# Altium schematic symbol library Espressif.SchLib: 32 symbols
Pins are listed as number, name and electrical type; pins without a type are passive.

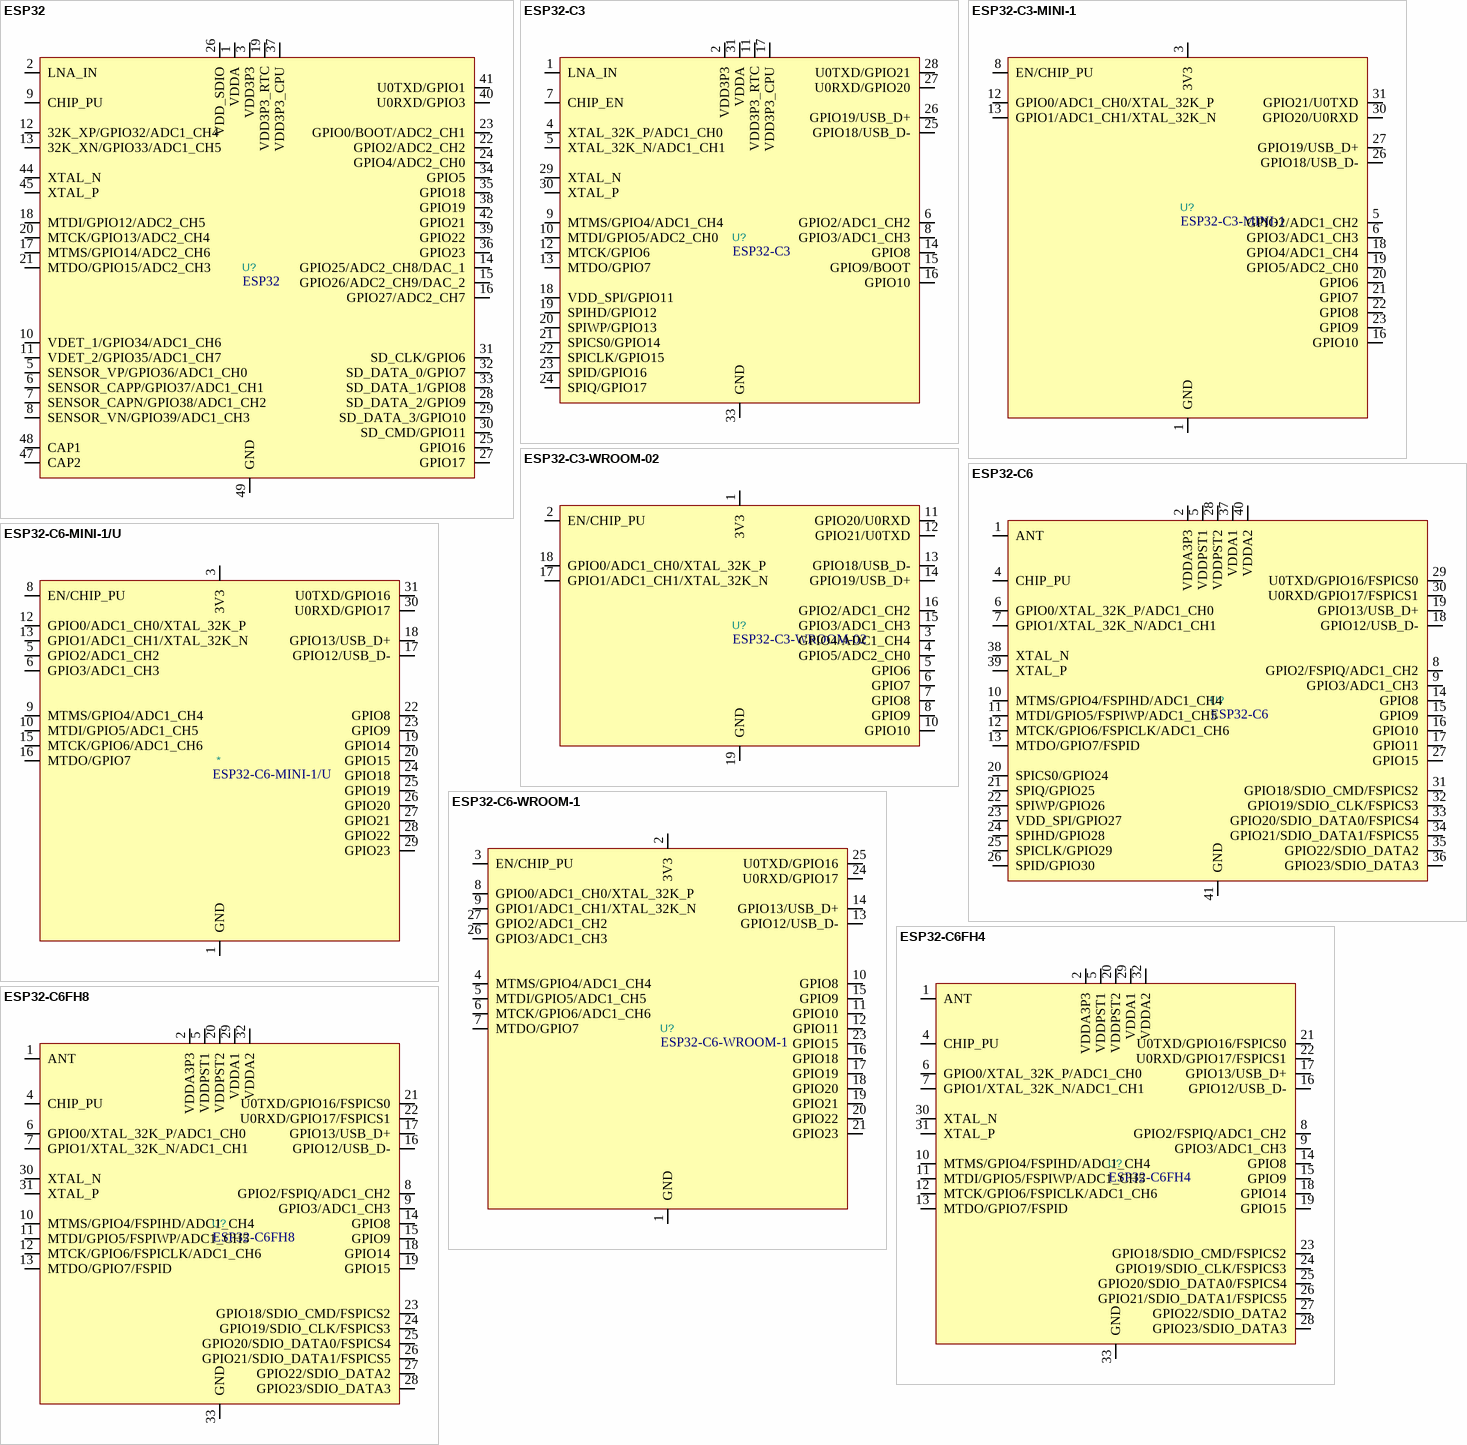
[diagram p0: symbols ESP32 to ESP32-C6FH8]

## ESP32
designator U?
ESP32 is a single 2.4 GHz Wi-Fi-and-Bluetooth combo chip designed with the TSMC ultra-low-power 40 nmtechnology.; ki_keywords: esp32 soc wifi bluetooth ethernet; Footprint: Package_DFN_QFN:QFN-48-1EP_6x6mm_P0.4mm_EP4.3x4.3mm; Datasheet: https://www.espressif.com/sites/default/files/documentation/esp32_datasheet_en.pdf; Description_: ESP32 is a single 2.4 GHz Wi-Fi-and-Bluetooth combo chip designed with the TSMC ultra-low-power 40 nmtechnology.
pins: 1 VDDA, 2 LNA_IN, 3 VDD3P3, 4 VDD3P3 hidden, 5 SENSOR_VP/GPIO36/ADC1_CH0, 6 SENSOR_CAPP/GPIO37/ADC1_CH1, 7 SENSOR_CAPN/GPIO38/ADC1_CH2, 8 SENSOR_VN/GPIO39/ADC1_CH3, 9 CHIP_PU, 10 VDET_1/GPIO34/ADC1_CH6, 11 VDET_2/GPIO35/ADC1_CH7, 12 32K_XP/GPIO32/ADC1_CH4, 13 32K_XN/GPIO33/ADC1_CH5, 14 GPIO25/ADC2_CH8/DAC_1, 15 GPIO26/ADC2_CH9/DAC_2, 16 GPIO27/ADC2_CH7, 17 MTMS/GPIO14/ADC2_CH6, 18 MTDI/GPIO12/ADC2_CH5, 19 VDD3P3_RTC, 20 MTCK/GPIO13/ADC2_CH4, 21 MTDO/GPIO15/ADC2_CH3, 22 GPIO2/ADC2_CH2, 23 GPIO0/BOOT/ADC2_CH1, 24 GPIO4/ADC2_CH0, 25 GPIO16, 26 VDD_SDIO, 27 GPIO17, 28 SD_DATA_2/GPIO9, 29 SD_DATA_3/GPIO10, 30 SD_CMD/GPIO11, 31 SD_CLK/GPIO6, 32 SD_DATA_0/GPIO7, 33 SD_DATA_1/GPIO8, 34 GPIO5, 35 GPIO18, 36 GPIO23, 37 VDD3P3_CPU, 38 GPIO19, 39 GPIO22, 40 U0RXD/GPIO3, 41 U0TXD/GPIO1, 42 GPIO21, 43 VDDA hidden, 44 XTAL_N, 45 XTAL_P, 46 VDDA hidden, 47 CAP2, 48 CAP1, 49 GND

## ESP32-C3
designator U?
ESP32-C3 family is an ultra-low-power MCU-based SoC solution that supports 2.4 GHz Wi-Fi and Bluetooth®Low Energy (Bluetooth LE).; Footprint: Package_DFN_QFN:QFN-32-1EP_5x5mm_P0.5mm_EP3.45x3.45mm; Datasheet: https://www.espressif.com/sites/default/files/documentation/esp32-c3_datasheet_en.pdf; Description_: ESP32-C3 family is an ultra-low-power MCU-based SoC solution that supports 2.4 GHz Wi-Fi and Bluetooth®Low Energy (Bluetooth LE).
footprint ESP32-C3
pins: 1 LNA_IN, 2 VDD3P3, 3 VDD3P3 hidden, 4 XTAL_32K_P/ADC1_CH0, 5 XTAL_32K_N/ADC1_CH1, 6 GPIO2/ADC1_CH2, 7 CHIP_EN, 8 GPIO3/ADC1_CH3, 9 MTMS/GPIO4/ADC1_CH4, 10 MTDI/GPIO5/ADC2_CH0, 11 VDD3P3_RTC, 12 MTCK/GPIO6, 13 MTDO/GPIO7, 14 GPIO8, 15 GPIO9/BOOT, 16 GPIO10, 17 VDD3P3_CPU, 18 VDD_SPI/GPIO11, 19 SPIHD/GPIO12, 20 SPIWP/GPIO13, 21 SPICS0/GPIO14, 22 SPICLK/GPIO15, 23 SPID/GPIO16, 24 SPIQ/GPIO17, 25 GPIO18/USB_D-, 26 GPIO19/USB_D+, 27 U0RXD/GPIO20, 28 U0TXD/GPIO21, 29 XTAL_N, 30 XTAL_P, 31 VDDA, 32 VDDA hidden, 33 GND

## ESP32-C3-MINI-1
designator U?
ESP32-C3-MINI-1 family is an ultra-low-power MCU-based SoC solution that supports 2.4 GHz Wi-Fi and Bluetooth®Low Energy (Bluetooth LE).; Footprint: PCM_Espressif:ESP32-C3-MINI-1; Datasheet: https://www.espressif.com/sites/default/files/documentation/esp32-c3-mini-1_datasheet_en.pdf; Description_: ESP32-C3-MINI-1 family is an ultra-low-power MCU-based SoC solution that supports 2.4 GHz Wi-Fi and Bluetooth®Low Energy (Bluetooth LE).; ki_keywords: esp32-c3
footprint ESP32-C3-MINI-1
footprint ESP32-C3-MINI-1U
footprint ESP32-C3-MINI-1_HandSoldering (ESP32-C3 模块)
pins: 1 GND, 2 GND hidden, 3 3V3, 4 NC hidden, 5 GPIO2/ADC1_CH2, 6 GPIO3/ADC1_CH3, 7 NC hidden, 8 EN/CHIP_PU, 9 NC hidden, 10 NC hidden, 11 GND hidden, 12 GPIO0/ADC1_CH0/XTAL_32K_P, 13 GPIO1/ADC1_CH1/XTAL_32K_N, 14 GND hidden, 15 NC hidden, 16 GPIO10, 17 NC hidden, 18 GPIO4/ADC1_CH4, 19 GPIO5/ADC2_CH0, 20 GPIO6, 21 GPIO7, 22 GPIO8, 23 GPIO9, 24 NC hidden, 25 NC hidden, 26 GPIO18/USB_D-, 27 GPIO19/USB_D+, 28 NC hidden, 29 NC hidden, 30 GPIO20/U0RXD, 31 GPIO21/U0TXD, 32 NC hidden, 33 NC hidden, 34 NC hidden, 35 NC hidden, 36 GND hidden, 37 GND hidden, 38 GND hidden, 39 GND hidden, 40 GND hidden, 41 GND hidden, 42 GND hidden, 43 GND hidden, 44 GND hidden, 45 GND hidden, 46 GND hidden, 47 GND hidden, 48 GND hidden, 49 GND hidden, 50 GND hidden, 51 GND hidden, 52 GND hidden, 53 GND hidden

## ESP32-C3-WROOM-02
designator U?
ESP32-C3-WROOM-02 is a general-purpose Wi-Fi and Bluetooth LE module. This module features a rich set of peripherals and high performance, which makes it an ideal choice for smart home, industrial automation, health care, consumer electronics, etc.; ki_keywords: esp32-c3 module; Footprint: PCM_Espressif:ESP32-C3-WROOM-02; Datasheet: https://www.espressif.com/sites/default/files/documentation/esp32-c3-wroom-02_datasheet_en.pdf; Description_: ESP32-C3-WROOM-02 is a general-purpose Wi-Fi and Bluetooth LE module. This module features a rich set of peripherals and high performance, which makes it an ideal choice for smart home, industrial automation, health care, consumer electronics, etc.
footprint ESP32-C3-WROOM-02
footprint ESP32-C3-WROOM-02U
pins: 1 3V3, 2 EN/CHIP_PU, 3 GPIO4/ADC1_CH4, 4 GPIO5/ADC2_CH0, 5 GPIO6, 6 GPIO7, 7 GPIO8, 8 GPIO9, 9 GND hidden, 10 GPIO10, 11 GPIO20/U0RXD, 12 GPIO21/U0TXD, 13 GPIO18/USB_D-, 14 GPIO19/USB_D+, 15 GPIO3/ADC1_CH3, 16 GPIO2/ADC1_CH2, 17 GPIO1/ADC1_CH1/XTAL_32K_N, 18 GPIO0/ADC1_CH0/XTAL_32K_P, 19 GND

## ESP32-C6
designator U?
ESP32C6,ultra-low-power SoC with RISC-V single-core microprocessor,2.4 GHz Wi-Fi 6 (802.11 ax), Bluetooth 5 (LE), Zigbee and Thread (802.15.4),QFN-40; ki_keywords: esp32c6 riscv wifi bluetooth zigbee thread; ki_fp_filters: QFN*W5mm*P0.4mm*; Footprint: Package_DFN_QFN:QFN-40-1EP_5x5mm_P0.4mm_EP3.6x3.6mm; Datasheet: https://www.espressif.com/sites/default/files/documentation/esp32-c6_datasheet_en.pdf; Description_: ESP32C6,ultra-low-power SoC with RISC-V single-core microprocessor,2.4 GHz Wi-Fi 6 (802.11 ax), Bluetooth 5 (LE), Zigbee and Thread (802.15.4),QFN-40
footprint ESP32-C6
pins: 1 ANT, 2 VDDA3P3, 3 VDDA3P3 hidden, 4 CHIP_PU, 5 VDDPST1, 6 GPIO0/XTAL_32K_P/ADC1_CH0, 7 GPIO1/XTAL_32K_N/ADC1_CH1, 8 GPIO2/FSPIQ/ADC1_CH2, 9 GPIO3/ADC1_CH3, 10 MTMS/GPIO4/FSPIHD/ADC1_CH4, 11 MTDI/GPIO5/FSPIWP/ADC1_CH5, 12 MTCK/GPIO6/FSPICLK/ADC1_CH6, 13 MTDO/GPIO7/FSPID, 14 GPIO8, 15 GPIO9, 16 GPIO10, 17 GPIO11, 18 GPIO12/USB_D-, 19 GPIO13/USB_D+, 20 SPICS0/GPIO24, 21 SPIQ/GPIO25, 22 SPIWP/GPIO26, 23 VDD_SPI/GPIO27, 24 SPIHD/GPIO28, 25 SPICLK/GPIO29, 26 SPID/GPIO30, 27 GPIO15, 28 VDDPST2, 29 U0TXD/GPIO16/FSPICS0, 30 U0RXD/GPIO17/FSPICS1, 31 GPIO18/SDIO_CMD/FSPICS2, 32 GPIO19/SDIO_CLK/FSPICS3, 33 GPIO20/SDIO_DATA0/FSPICS4, 34 GPIO21/SDIO_DATA1/FSPICS5, 35 GPIO22/SDIO_DATA2, 36 GPIO23/SDIO_DATA3, 37 VDDA1, 38 XTAL_N, 39 XTAL_P, 40 VDDA2, 41 GND

## ESP32-C6-MINI-1/U
designator *
ESP32-C6-MINI-1 is a module that supports 2.4 GHz Wi-Fi 6 (802.11 ax), Bluetooth® 5 (LE), Zigbee and Thread (802.15.4); ki_keywords: esp32-c6 esp32-c6-mini-1 esp32-c6-mini-1u; Footprint: PCM_Espressif:ESP32-C6-MINI-1; Datasheet: https://www.espressif.com/sites/default/files/documentation/esp32-c6-mini-1_datasheet_en.pdf; Description_: ESP32-C6-MINI-1 is a module that supports 2.4 GHz Wi-Fi 6 (802.11 ax), Bluetooth® 5 (LE), Zigbee and Thread (802.15.4)
footprint ESP32-C6-MINI-1
footprint ESP32-C6-MINI-1U
pins: 1 GND, 2 GND hidden, 3 3V3, 4 NC hidden, 5 GPIO2/ADC1_CH2, 6 GPIO3/ADC1_CH3, 7 NC hidden, 8 EN/CHIP_PU, 9 MTMS/GPIO4/ADC1_CH4, 10 MTDI/GPIO5/ADC1_CH5, 11 GND hidden, 12 GPIO0/ADC1_CH0/XTAL_32K_P, 13 GPIO1/ADC1_CH1/XTAL_32K_N, 14 GND hidden, 15 MTCK/GPIO6/ADC1_CH6, 16 MTDO/GPIO7, 17 GPIO12/USB_D-, 18 GPIO13/USB_D+, 19 GPIO14, 20 GPIO15, 21 NC hidden, 22 GPIO8, 23 GPIO9, 24 GPIO18, 25 GPIO19, 26 GPIO20, 27 GPIO21, 28 GPIO22, 29 GPIO23, 30 U0RXD/GPIO17, 31 U0TXD/GPIO16, 32 NC hidden, 33 NC hidden, 34 NC hidden, 35 NC hidden, 36 GND hidden, 37 GND hidden, 38 GND hidden, 39 GND hidden, 40 GND hidden, 41 GND hidden, 42 GND hidden, 43 GND hidden, 44 GND hidden, 45 GND hidden, 46 GND hidden, 47 GND hidden, 48 GND hidden, 49 GND hidden, 50 GND hidden, 51 GND hidden, 52 GND hidden, 53 GND hidden

## ESP32-C6-WROOM-1
designator U?
ESP32-C6-WROOM-1/U is a module that supports 2.4 GHz Wi-Fi 6 (802.11 ax), Bluetooth® 5 (LE), Zigbee and Thread (802.15.4); ki_keywords: esp32-c6 esp32-c6-wroom-1 esp32-c6-wroom-1u; ki_fp_filters: ESP32-C6-WROOM-1*; Footprint: PCM_Espressif:ESP32-C6-WROOM-1; Datasheet: https://www.espressif.com/sites/default/files/documentation/esp32-c6-wroom-1_wroom-1u_datasheet_en.pdf; Description_: ESP32-C6-WROOM-1/U is a module that supports 2.4 GHz Wi-Fi 6 (802.11 ax), Bluetooth® 5 (LE), Zigbee and Thread (802.15.4)
footprint ESP32-C6-WROOM-1
footprint ESP32-C6-WROOM-1U
pins: 1 GND, 2 3V3, 3 EN/CHIP_PU, 4 MTMS/GPIO4/ADC1_CH4, 5 MTDI/GPIO5/ADC1_CH5, 6 MTCK/GPIO6/ADC1_CH6, 7 MTDO/GPIO7, 8 GPIO0/ADC1_CH0/XTAL_32K_P, 9 GPIO1/ADC1_CH1/XTAL_32K_N, 10 GPIO8, 11 GPIO10, 12 GPIO11, 13 GPIO12/USB_D-, 14 GPIO13/USB_D+, 15 GPIO9, 16 GPIO18, 17 GPIO19, 18 GPIO20, 19 GPIO21, 20 GPIO22, 21 GPIO23, 22 NC hidden, 23 GPIO15, 24 U0RXD/GPIO17, 25 U0TXD/GPIO16, 26 GPIO3/ADC1_CH3, 27 GPIO2/ADC1_CH2, 28 GND hidden, 29 GND hidden

## ESP32-C6FH4
designator U?
ESP32-C6, ultra-low-power SoC with RISC-V single-core microprocessor,2.4 GHz Wi-Fi 6 (802.11 ax), Bluetooth 5 (LE), Zigbee and Thread (802.15.4),QFN-32; ki_keywords: esp32c6 riscv wifi bluetooth zigbee thread; ki_fp_filters: QFN*W5mm*P0.5mm*; Footprint: Package_DFN_QFN:QFN-32-1EP_5x5mm_P0.5mm_EP3.6x3.6mm; Datasheet: https://www.espressif.com/sites/default/files/documentation/esp32-c6_datasheet_en.pdf; Description_: ESP32-C6, ultra-low-power SoC with RISC-V single-core microprocessor,2.4 GHz Wi-Fi 6 (802.11 ax), Bluetooth 5 (LE), Zigbee and Thread (802.15.4),QFN-32
footprint ESP32-C6F
pins: 1 ANT, 2 VDDA3P3, 3 VDDA3P3 hidden, 4 CHIP_PU, 5 VDDPST1, 6 GPIO0/XTAL_32K_P/ADC1_CH0, 7 GPIO1/XTAL_32K_N/ADC1_CH1, 8 GPIO2/FSPIQ/ADC1_CH2, 9 GPIO3/ADC1_CH3, 10 MTMS/GPIO4/FSPIHD/ADC1_CH4, 11 MTDI/GPIO5/FSPIWP/ADC1_CH5, 12 MTCK/GPIO6/FSPICLK/ADC1_CH6, 13 MTDO/GPIO7/FSPID, 14 GPIO8, 15 GPIO9, 16 GPIO12/USB_D-, 17 GPIO13/USB_D+, 18 GPIO14, 19 GPIO15, 20 VDDPST2, 21 U0TXD/GPIO16/FSPICS0, 22 U0RXD/GPIO17/FSPICS1, 23 GPIO18/SDIO_CMD/FSPICS2, 24 GPIO19/SDIO_CLK/FSPICS3, 25 GPIO20/SDIO_DATA0/FSPICS4, 26 GPIO21/SDIO_DATA1/FSPICS5, 27 GPIO22/SDIO_DATA2, 28 GPIO23/SDIO_DATA3, 29 VDDA1, 30 XTAL_N, 31 XTAL_P, 32 VDDA2, 33 GND

## ESP32-C6FH8
designator U?
ESP32-C6, ultra-low-power SoC with RISC-V single-core microprocessor,2.4 GHz Wi-Fi 6 (802.11 ax), Bluetooth 5 (LE), Zigbee and Thread (802.15.4),QFN-32; ki_keywords: esp32c6 riscv wifi bluetooth zigbee thread; ki_fp_filters: QFN*W5mm*P0.5mm*; Footprint: Package_DFN_QFN:QFN-32-1EP_5x5mm_P0.5mm_EP3.6x3.6mm; Datasheet: https://www.espressif.com/sites/default/files/documentation/esp32-c6_datasheet_en.pdf; Description_: ESP32-C6, ultra-low-power SoC with RISC-V single-core microprocessor,2.4 GHz Wi-Fi 6 (802.11 ax), Bluetooth 5 (LE), Zigbee and Thread (802.15.4),QFN-32
footprint ESP32-C6F
pins: 1 ANT, 2 VDDA3P3, 3 VDDA3P3 hidden, 4 CHIP_PU, 5 VDDPST1, 6 GPIO0/XTAL_32K_P/ADC1_CH0, 7 GPIO1/XTAL_32K_N/ADC1_CH1, 8 GPIO2/FSPIQ/ADC1_CH2, 9 GPIO3/ADC1_CH3, 10 MTMS/GPIO4/FSPIHD/ADC1_CH4, 11 MTDI/GPIO5/FSPIWP/ADC1_CH5, 12 MTCK/GPIO6/FSPICLK/ADC1_CH6, 13 MTDO/GPIO7/FSPID, 14 GPIO8, 15 GPIO9, 16 GPIO12/USB_D-, 17 GPIO13/USB_D+, 18 GPIO14, 19 GPIO15, 20 VDDPST2, 21 U0TXD/GPIO16/FSPICS0, 22 U0RXD/GPIO17/FSPICS1, 23 GPIO18/SDIO_CMD/FSPICS2, 24 GPIO19/SDIO_CLK/FSPICS3, 25 GPIO20/SDIO_DATA0/FSPICS4, 26 GPIO21/SDIO_DATA1/FSPICS5, 27 GPIO22/SDIO_DATA2, 28 GPIO23/SDIO_DATA3, 29 VDDA1, 30 XTAL_N, 31 XTAL_P, 32 VDDA2, 33 GND

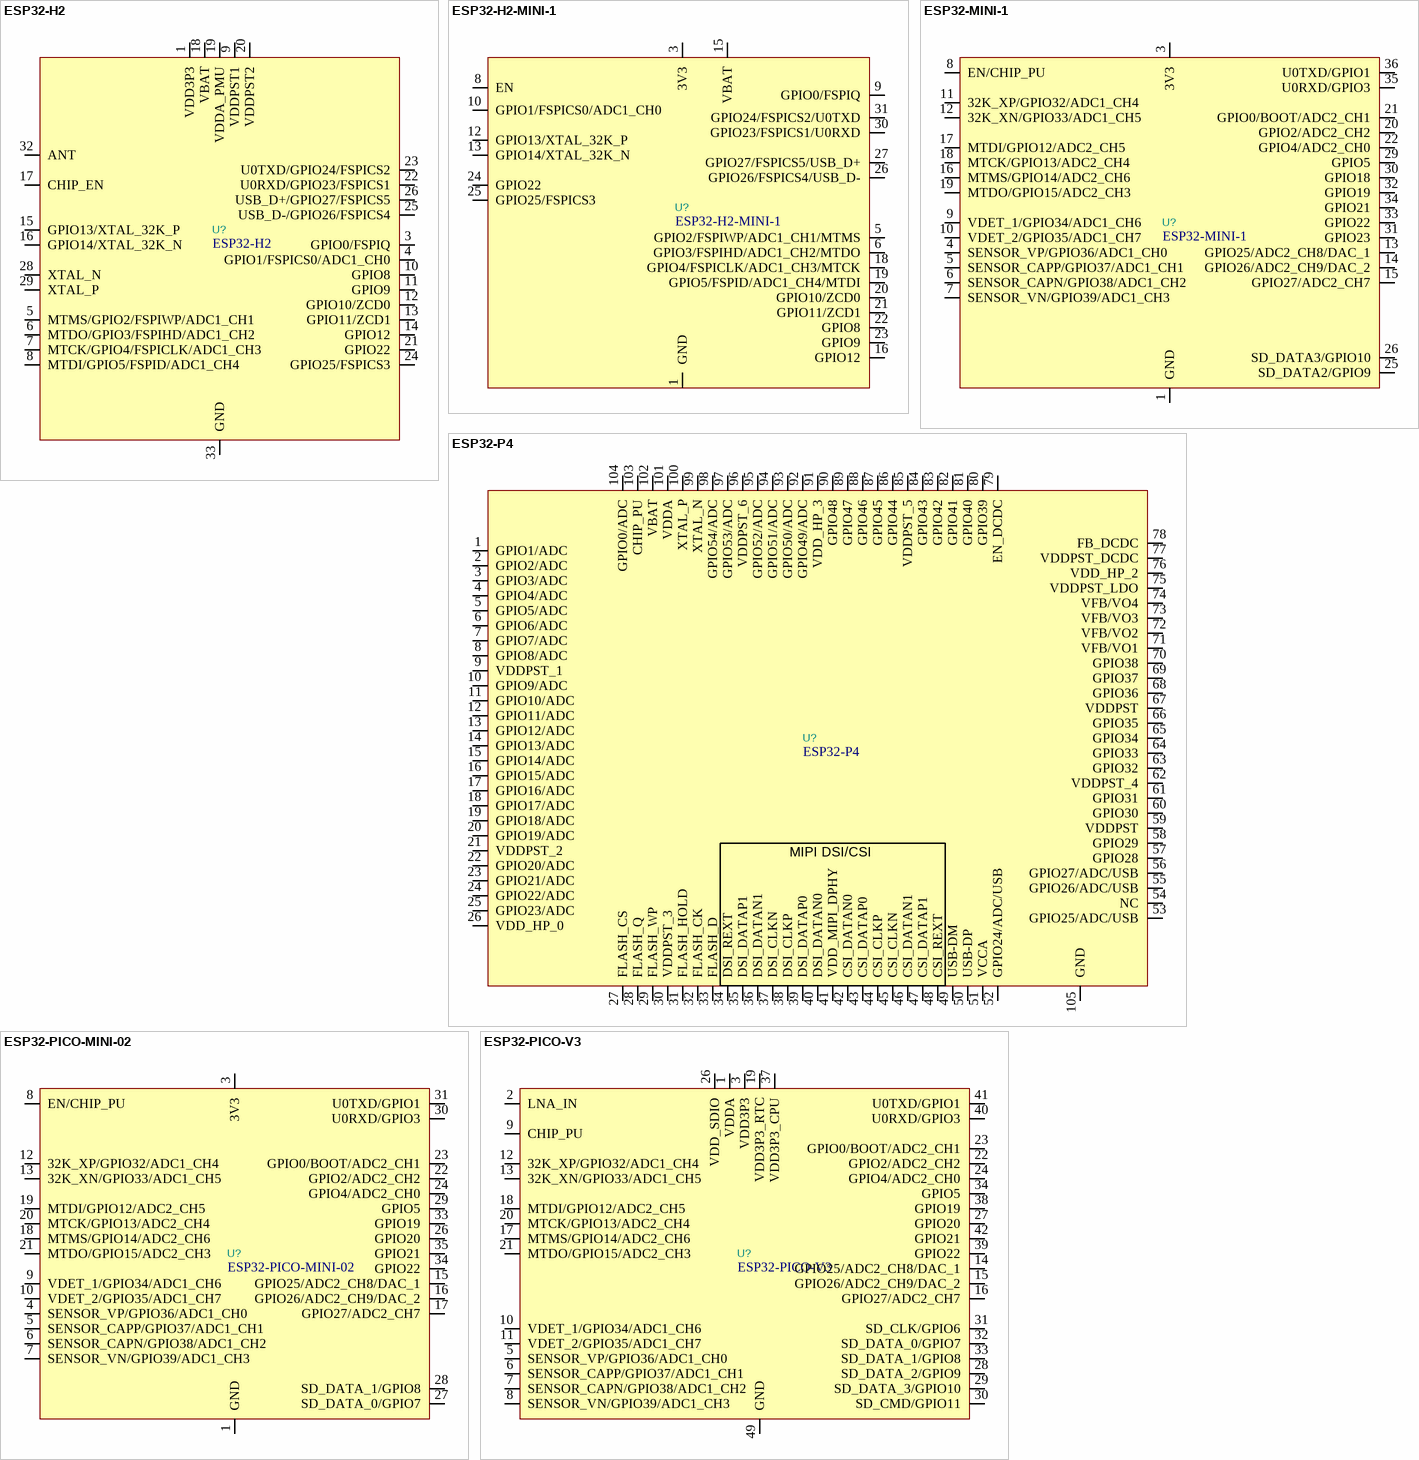
[diagram p1: symbols ESP32-H2 to ESP32-PICO-V3]

## ESP32-H2
designator U?
ESP32-H2, ultra-low-power SoC with RISC-V single-core microprocessor,Bluetooth 5 (LE), Zigbee and Thread (802.15.4),QFN-32; ki_keywords: esp32h2 riscv bluetooth zigbee thread; Footprint: PCM_Espressif:QFN-32-1EP_4x4mm_P0.4mm_EP2.9x2.9mm; Datasheet: https://www.espressif.com/sites/default/files/documentation/esp32-h2_datasheet_en.pdf; Description_: ESP32-H2, ultra-low-power SoC with RISC-V single-core microprocessor,Bluetooth 5 (LE), Zigbee and Thread (802.15.4),QFN-32
footprint ESP32-H2
pins: 1 VDD3P3, 2 VDD3P3 hidden, 3 GPIO0/FSPIQ, 4 GPIO1/FSPICS0/ADC1_CH0, 5 MTMS/GPIO2/FSPIWP/ADC1_CH1, 6 MTDO/GPIO3/FSPIHD/ADC1_CH2, 7 MTCK/GPIO4/FSPICLK/ADC1_CH3, 8 MTDI/GPIO5/FSPID/ADC1_CH4, 9 VDDPST1, 10 GPIO8, 11 GPIO9, 12 GPIO10/ZCD0, 13 GPIO11/ZCD1, 14 GPIO12, 15 GPIO13/XTAL_32K_P, 16 GPIO14/XTAL_32K_N, 17 CHIP_EN, 18 VBAT, 19 VDDA_PMU, 20 VDDPST2, 21 GPIO22, 22 U0RXD/GPIO23/FSPICS1, 23 U0TXD/GPIO24/FSPICS2, 24 GPIO25/FSPICS3, 25 USB_D-/GPIO26/FSPICS4, 26 USB_D+/GPIO27/FSPICS5, 27 VDD3P3 hidden, 28 XTAL_N, 29 XTAL_P, 30 VDD3P3 hidden, 31 VDD3P3 hidden, 32 ANT, 33 GND

## ESP32-H2-MINI-1
designator U?
ESP32-C2-MINI-1 family is an ultra-low-power MCU-based SoC solution that supports Bluetooth®Low Energy (Bluetooth LE), Zigbee 3.0 and Matter; Footprint: PCM_Espressif:ESP32-H2-MINI-1; Datasheet: https://www.espressif.com/sites/default/files/documentation/esp32-h2-mini-1_mini-1u_datasheet_en.pdf; Description_: ESP32-C2-MINI-1 family is an ultra-low-power MCU-based SoC solution that supports Bluetooth®Low Energy (Bluetooth LE), Zigbee 3.0 and Matter; ki_keywords: esp32-h2
footprint ESP32-H2-MINI-1
footprint ESP32-H2-MINI-1U
pins: 1 GND, 2 GND hidden, 3 3V3, 4 NC hidden, 5 GPIO2/FSPIWP/ADC1_CH1/MTMS, 6 GPIO3/FSPIHD/ADC1_CH2/MTDO, 7 NC hidden, 8 EN, 9 GPIO0/FSPIQ, 10 GPIO1/FSPICS0/ADC1_CH0, 11 GND hidden, 12 GPIO13/XTAL_32K_P, 13 GPIO14/XTAL_32K_N, 14 GND hidden, 15 VBAT, 16 GPIO12, 17 NC hidden, 18 GPIO4/FSPICLK/ADC1_CH3/MTCK, 19 GPIO5/FSPID/ADC1_CH4/MTDI, 20 GPIO10/ZCD0, 21 GPIO11/ZCD1, 22 GPIO8, 23 GPIO9, 24 GPIO22, 25 GPIO25/FSPICS3, 26 GPIO26/FSPICS4/USB_D-, 27 GPIO27/FSPICS5/USB_D+, 28 NC hidden, 29 NC hidden, 30 GPIO23/FSPICS1/U0RXD, 31 GPIO24/FSPICS2/U0TXD, 32 NC hidden, 33 NC hidden, 34 NC hidden, 35 NC hidden, 36 GND hidden, 37 GND hidden, 38 GND hidden, 39 GND hidden, 40 GND hidden, 41 GND hidden, 42 GND hidden, 43 GND hidden, 44 GND hidden, 45 GND hidden, 46 GND hidden, 47 GND hidden, 48 GND hidden, 49 GND hidden, 50 GND hidden, 51 GND hidden, 52 GND hidden, 53 GND hidden

## ESP32-MINI-1
designator U?
ESP32-MINI-1/U MCU, SiP, 4MB Flash in ESP32-MINI-format; ki_keywords: esp32 espressif mini; Footprint: PCM_Espressif:ESP32-MINI-1; Datasheet: https://www.espressif.com/sites/default/files/documentation/esp32-mini-1_datasheet_en.pdf; Description_: ESP32-MINI-1/U MCU, SiP, 4MB Flash in ESP32-MINI-format
footprint ESP32-MINI-1
footprint ESP32-MINI-1U
pins: 1 GND, 2 GND hidden, 3 3V3, 4 SENSOR_VP/GPIO36/ADC1_CH0, 5 SENSOR_CAPP/GPIO37/ADC1_CH1, 6 SENSOR_CAPN/GPIO38/ADC1_CH2, 7 SENSOR_VN/GPIO39/ADC1_CH3, 8 EN/CHIP_PU, 9 VDET_1/GPIO34/ADC1_CH6, 10 VDET_2/GPIO35/ADC1_CH7, 11 32K_XP/GPIO32/ADC1_CH4, 12 32K_XN/GPIO33/ADC1_CH5, 13 GPIO25/ADC2_CH8/DAC_1, 14 GPIO26/ADC2_CH9/DAC_2, 15 GPIO27/ADC2_CH7, 16 MTMS/GPIO14/ADC2_CH6, 17 MTDI/GPIO12/ADC2_CH5, 18 MTCK/GPIO13/ADC2_CH4, 19 MTDO/GPIO15/ADC2_CH3, 20 GPIO2/ADC2_CH2, 21 GPIO0/BOOT/ADC2_CH1, 22 GPIO4/ADC2_CH0, 23 NC hidden, 24 NC hidden, 25 SD_DATA2/GPIO9, 26 SD_DATA3/GPIO10, 27 GND hidden, 28 NC hidden, 29 GPIO5, 30 GPIO18, 31 GPIO23, 32 GPIO19, 33 GPIO22, 34 GPIO21, 35 U0RXD/GPIO3, 36 U0TXD/GPIO1, 37 NC hidden, 38 GND hidden, 39 GND hidden, 40 GND hidden, 41 GND hidden, 42 GND hidden, 43 GND hidden, 44 GND hidden, 45 GND hidden, 46 GND hidden, 47 GND hidden, 48 GND hidden, 49 GND hidden, 50 GND hidden, 51 GND hidden, 52 GND hidden, 53 GND hidden, 54 GND hidden, 55 GND hidden

## ESP32-P4
designator U?
High-performance MCU with one RISC-V 32-bit dual-core microprocessor and one single-core microprocessor; Footprint: PCM_Espressif:Espressif:ESP32-P4; Description_: High-performance MCU with one RISC-V 32-bit dual-core microprocessor and one single-core microprocessor
footprint ESP32-P4
pins: 1 GPIO1/ADC, 2 GPIO2/ADC, 3 GPIO3/ADC, 4 GPIO4/ADC, 5 GPIO5/ADC, 6 GPIO6/ADC, 7 GPIO7/ADC, 8 GPIO8/ADC, 9 VDDPST_1, 10 GPIO9/ADC, 11 GPIO10/ADC, 12 GPIO11/ADC, 13 GPIO12/ADC, 14 GPIO13/ADC, 15 GPIO14/ADC, 16 GPIO15/ADC, 17 GPIO16/ADC, 18 GPIO17/ADC, 19 GPIO18/ADC, 20 GPIO19/ADC, 21 VDDPST_2, 22 GPIO20/ADC, 23 GPIO21/ADC, 24 GPIO22/ADC, 25 GPIO23/ADC, 26 VDD_HP_0, 27 FLASH_CS, 28 FLASH_Q, 29 FLASH_WP, 30 VDDPST_3, 31 FLASH_HOLD, 32 FLASH_CK, 33 FLASH_D, 34 DSI_REXT, 35 DSI_DATAP1, 36 DSI_DATAN1, 37 DSI_CLKN, 38 DSI_CLKP, 39 DSI_DATAP0, 40 DSI_DATAN0, 41 VDD_MIPI_DPHY, 42 CSI_DATAN0, 43 CSI_DATAP0, 44 CSI_CLKP, 45 CSI_CLKN, 46 CSI_DATAN1, 47 CSI_DATAP1, 48 CSI_REXT, 49 USB-DM, 50 USB-DP, 51 VCCA, 52 GPIO24/ADC/USB, 53 GPIO25/ADC/USB, 54 NC, 55 GPIO26/ADC/USB, 56 GPIO27/ADC/USB, 57 GPIO28, 58 GPIO29, 59 VDDPST, 60 GPIO30, 61 GPIO31, 62 VDDPST_4, 63 GPIO32, 64 GPIO33, 65 GPIO34, 66 GPIO35, 67 VDDPST, 68 GPIO36, 69 GPIO37, 70 GPIO38, 71 VFB/VO1, 72 VFB/VO2, 73 VFB/VO3, 74 VFB/VO4, 75 VDDPST_LDO, 76 VDD_HP_2, 77 VDDPST_DCDC, 78 FB_DCDC, 79 EN_DCDC, 80 GPIO39, 81 GPIO40, 82 GPIO41, 83 GPIO42, 84 GPIO43, 85 VDDPST_5, 86 GPIO44, 87 GPIO45, 88 GPIO46, 89 GPIO47, 90 GPIO48, 91 VDD_HP_3, 92 GPIO49/ADC, 93 GPIO50/ADC, 94 GPIO51/ADC, 95 GPIO52/ADC, 96 VDDPST_6, 97 GPIO53/ADC, 98 GPIO54/ADC, 99 XTAL_N, 100 XTAL_P, 101 VDDA, 102 VBAT, 103 CHIP_PU, 104 GPIO0/ADC, 105 GND
text: MIPI DSI/CSI

## ESP32-PICO-MINI-02
designator U?
ESP32-PICO-V3-02 MCU, SiP, 8MB Flash, 2 MB PSRAM in ESP32-MINI-format; ki_keywords: esp32 espressif pico mini; Footprint: PCM_Espressif:ESP32-PICO-MINI-02; Datasheet: https://www.espressif.com/sites/default/files/documentation/esp32-pico-mini-02_datasheet_en.pdf; Description_: ESP32-PICO-V3-02 MCU, SiP, 8MB Flash, 2 MB PSRAM in ESP32-MINI-format
footprint ESP32-PICO-MINI-02
footprint ESP32-PICO-MINI-02U (借用了ESP32-C6的模型)
footprint ESP32-PICO-MINI-02_HandSoldering
pins: 1 GND, 2 GND hidden, 3 3V3, 4 SENSOR_VP/GPIO36/ADC1_CH0, 5 SENSOR_CAPP/GPIO37/ADC1_CH1, 6 SENSOR_CAPN/GPIO38/ADC1_CH2, 7 SENSOR_VN/GPIO39/ADC1_CH3, 8 EN/CHIP_PU, 9 VDET_1/GPIO34/ADC1_CH6, 10 VDET_2/GPIO35/ADC1_CH7, 11 GND hidden, 12 32K_XP/GPIO32/ADC1_CH4, 13 32K_XN/GPIO33/ADC1_CH5, 14 GND hidden, 15 GPIO25/ADC2_CH8/DAC_1, 16 GPIO26/ADC2_CH9/DAC_2, 17 GPIO27/ADC2_CH7, 18 MTMS/GPIO14/ADC2_CH6, 19 MTDI/GPIO12/ADC2_CH5, 20 MTCK/GPIO13/ADC2_CH4, 21 MTDO/GPIO15/ADC2_CH3, 22 GPIO2/ADC2_CH2, 23 GPIO0/BOOT/ADC2_CH1, 24 GPIO4/ADC2_CH0, 25 NC hidden, 26 GPIO20, 27 SD_DATA_0/GPIO7, 28 SD_DATA_1/GPIO8, 29 GPIO5, 30 U0RXD/GPIO3, 31 U0TXD/GPIO1, 32 NC hidden, 33 GPIO19, 34 GPIO22, 35 GPIO21, 36 GND hidden, 37 GND hidden, 38 GND hidden, 39 GND hidden, 40 GND hidden, 41 GND hidden, 42 GND hidden, 43 GND hidden, 44 GND hidden, 45 GND hidden, 46 GND hidden, 47 GND hidden, 48 GND hidden, 49 GND hidden, 50 GND hidden, 51 GND hidden, 52 GND hidden, 53 GND hidden

## ESP32-PICO-V3
designator U?
The ESP32-PICO-V3 is a System-in-Package (SiP) device that is based on ESP32 with ECO V3 wafer, providingcomplete Wi-Fi and Bluetooth®functionalities. It integrates a 4 MB SPI flash.; Footprint: Package_DFN_QFN:QFN-48-1EP_7x7mm_P0.5mm_EP5.15x5.15mm; Datasheet: https://www.espressif.com/sites/default/files/documentation/esp32-pico-v3_datasheet_en.pdf; Description_: The ESP32-PICO-V3 is a System-in-Package (SiP) device that is based on ESP32 with ECO V3 wafer, providingcomplete Wi-Fi and Bluetooth®functionalities. It integrates a 4 MB SPI flash.
footprint ESP32-PICO-V3
pins: 1 VDDA, 2 LNA_IN, 3 VDD3P3, 4 VDD3P3 hidden, 5 SENSOR_VP/GPIO36/ADC1_CH0, 6 SENSOR_CAPP/GPIO37/ADC1_CH1, 7 SENSOR_CAPN/GPIO38/ADC1_CH2, 8 SENSOR_VN/GPIO39/ADC1_CH3, 9 CHIP_PU, 10 VDET_1/GPIO34/ADC1_CH6, 11 VDET_2/GPIO35/ADC1_CH7, 12 32K_XP/GPIO32/ADC1_CH4, 13 32K_XN/GPIO33/ADC1_CH5, 14 GPIO25/ADC2_CH8/DAC_1, 15 GPIO26/ADC2_CH9/DAC_2, 16 GPIO27/ADC2_CH7, 17 MTMS/GPIO14/ADC2_CH6, 18 MTDI/GPIO12/ADC2_CH5, 19 VDD3P3_RTC, 20 MTCK/GPIO13/ADC2_CH4, 21 MTDO/GPIO15/ADC2_CH3, 22 GPIO2/ADC2_CH2, 23 GPIO0/BOOT/ADC2_CH1, 24 GPIO4/ADC2_CH0, 26 VDD_SDIO, 27 GPIO20, 28 SD_DATA_2/GPIO9, 29 SD_DATA_3/GPIO10, 30 SD_CMD/GPIO11, 31 SD_CLK/GPIO6, 32 SD_DATA_0/GPIO7, 33 SD_DATA_1/GPIO8, 34 GPIO5, 37 VDD3P3_CPU, 38 GPIO19, 39 GPIO22, 40 U0RXD/GPIO3, 41 U0TXD/GPIO1, 42 GPIO21, 43 VDDA hidden, 46 VDDA hidden, 49 GND

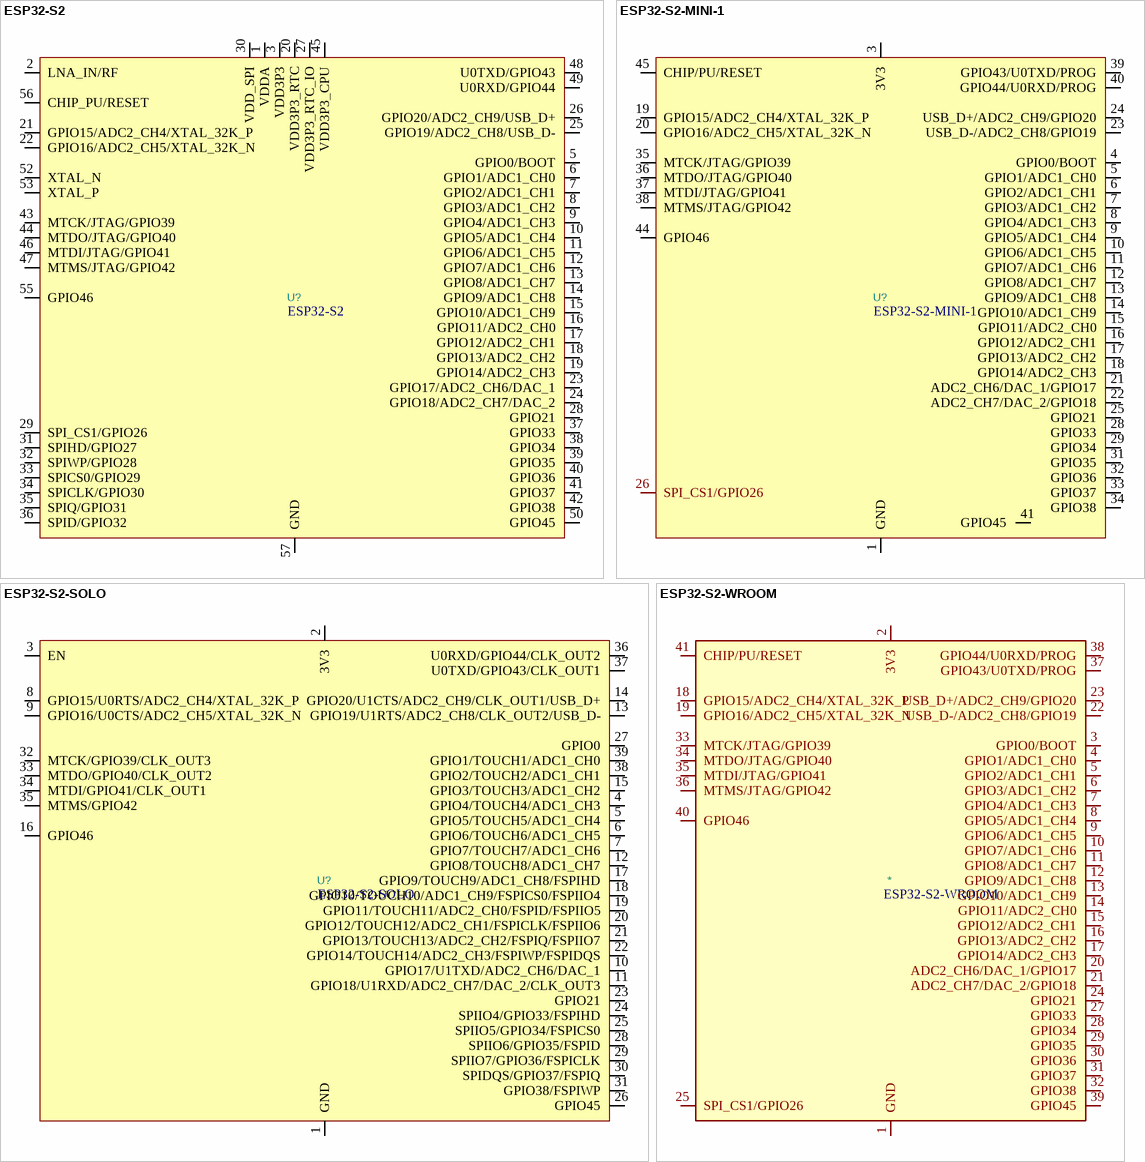
[diagram p2: symbols ESP32-S2 to ESP32-S2-WROOM]

## ESP32-S2
designator U?
ESP32-S2 family is a highly-integrated, low-power, 2.4GHz Wi-Fi System-on-Chip (SoC) solution.; Footprint: Package_DFN_QFN:QFN-56-1EP_7x7mm_P0.4mm_EP5.6x5.6mm; Datasheet: https://www.espressif.com/sites/default/files/documentation/esp32-s2_datasheet_en.pdf; Description_: ESP32-S2 family is a highly-integrated, low-power, 2.4GHz Wi-Fi System-on-Chip (SoC) solution.
footprint ESP32-S2
pins: 1 VDDA, 2 LNA_IN/RF, 3 VDD3P3, 4 VDD3P3 hidden, 5 GPIO0/BOOT, 6 GPIO1/ADC1_CH0, 7 GPIO2/ADC1_CH1, 8 GPIO3/ADC1_CH2, 9 GPIO4/ADC1_CH3, 10 GPIO5/ADC1_CH4, 11 GPIO6/ADC1_CH5, 12 GPIO7/ADC1_CH6, 13 GPIO8/ADC1_CH7, 14 GPIO9/ADC1_CH8, 15 GPIO10/ADC1_CH9, 16 GPIO11/ADC2_CH0, 17 GPIO12/ADC2_CH1, 18 GPIO13/ADC2_CH2, 19 GPIO14/ADC2_CH3, 20 VDD3P3_RTC, 21 GPIO15/ADC2_CH4/XTAL_32K_P, 22 GPIO16/ADC2_CH5/XTAL_32K_N, 23 GPIO17/ADC2_CH6/DAC_1, 24 GPIO18/ADC2_CH7/DAC_2, 25 GPIO19/ADC2_CH8/USB_D-, 26 GPIO20/ADC2_CH9/USB_D+, 27 VDD3P3_RTC_IO, 28 GPIO21, 29 SPI_CS1/GPIO26, 30 VDD_SPI, 31 SPIHD/GPIO27, 32 SPIWP/GPIO28, 33 SPICS0/GPIO29, 34 SPICLK/GPIO30, 35 SPIQ/GPIO31, 36 SPID/GPIO32, 37 GPIO33, 38 GPIO34, 39 GPIO35, 40 GPIO36, 41 GPIO37, 42 GPIO38, 43 MTCK/JTAG/GPIO39, 44 MTDO/JTAG/GPIO40, 45 VDD3P3_CPU, 46 MTDI/JTAG/GPIO41, 47 MTMS/JTAG/GPIO42, 48 U0TXD/GPIO43, 49 U0RXD/GPIO44, 50 GPIO45, 51 VDDA hidden, 52 XTAL_N, 53 XTAL_P, 54 VDDA hidden, 55 GPIO46, 56 CHIP_PU/RESET, 57 GND

## ESP32-S2-MINI-1
designator U?
ESP32-S2-MINI-1 and ESP32-S2-MINI-1U are two powerful, generic Wi-Fi MCU modules that have a rich set of peripherals. They are an ideal choice for a wide variety of application scenarios relating to Internet of Things (IoT), wearable electronics and smart home.; Footprint: PCM_Espressif:ESP32-S2-MINI-1; Datasheet: https://www.espressif.com/sites/default/files/documentation/esp32-s2-mini-1_esp32-s2-mini-1u_datasheet_en.pdf; Description_: ESP32-S2-MINI-1 and ESP32-S2-MINI-1U are two powerful, generic Wi-Fi MCU modules that have a rich set of peripherals. They are an ideal choice for a wide variety of application scenarios relating to Internet of Things (IoT), wearable electronics and smart home.; ki_keywords: ESP32-S2
footprint ESP32-S2-MINI-1U
footprint ESP32-S2-MINI-1
footprint ESP32-S2-MINI-1_HandSoldering
pins: 1 GND, 2 GND hidden, 3 3V3, 4 GPIO0/BOOT, 5 GPIO1/ADC1_CH0, 6 GPIO2/ADC1_CH1, 7 GPIO3/ADC1_CH2, 8 GPIO4/ADC1_CH3, 9 GPIO5/ADC1_CH4, 10 GPIO6/ADC1_CH5, 11 GPIO7/ADC1_CH6, 12 GPIO8/ADC1_CH7, 13 GPIO9/ADC1_CH8, 14 GPIO10/ADC1_CH9, 15 GPIO11/ADC2_CH0, 16 GPIO12/ADC2_CH1, 17 GPIO13/ADC2_CH2, 18 GPIO14/ADC2_CH3, 19 GPIO15/ADC2_CH4/XTAL_32K_P, 20 GPIO16/ADC2_CH5/XTAL_32K_N, 21 ADC2_CH6/DAC_1/GPIO17, 22 ADC2_CH7/DAC_2/GPIO18, 23 USB_D-/ADC2_CH8/GPIO19, 24 USB_D+/ADC2_CH9/GPIO20, 25 GPIO21, 26 SPI_CS1/GPIO26, 27 NC hidden, 28 GPIO33, 29 GPIO34, 30 GND hidden, 31 GPIO35, 32 GPIO36, 33 GPIO37, 34 GPIO38, 35 MTCK/JTAG/GPIO39, 36 MTDO/JTAG/GPIO40, 37 MTDI/JTAG/GPIO41, 38 MTMS/JTAG/GPIO42, 39 GPIO43/U0TXD/PROG, 40 GPIO44/U0RXD/PROG, 41 GPIO45, 42 GND hidden, 43 GND hidden, 44 GPIO46, 45 CHIP/PU/RESET, 46 GND hidden, 47 GND hidden, 48 GND hidden, 49 GND hidden, 50 GND hidden, 51 GND hidden, 52 GND hidden, 53 GND hidden, 54 GND hidden, 55 GND hidden, 56 GND hidden, 57 GND hidden, 58 GND hidden, 59 GND hidden, 60 GND hidden, 61 GND hidden, 62 GND hidden, 63 GND hidden, 64 GND hidden, 65 GND hidden

## ESP32-S2-SOLO
designator U?
ESP32-S2-SOLO and ESP32-S2-SOLO-U are two powerful, generic Wi-Fi MCU modules that have a rich set of peripherals.; ki_keywords: esp32-s2 solo; Footprint: PCM_Espressif:ESP32-S2-SOLO; Datasheet: https://www.espressif.com/sites/default/files/documentation/esp32-s2-solo_esp32-s2-solo-u_datasheet_en.pdf; Description_: ESP32-S2-SOLO and ESP32-S2-SOLO-U are two powerful, generic Wi-Fi MCU modules that have a rich set of peripherals.
footprint ESP32-S2-SOLO
footprint ESP32-S2-SOLO-2U
pins: 1 GND, 2 3V3, 3 EN, 4 GPIO4/TOUCH4/ADC1_CH3, 5 GPIO5/TOUCH5/ADC1_CH4, 6 GPIO6/TOUCH6/ADC1_CH5, 7 GPIO7/TOUCH7/ADC1_CH6, 8 GPIO15/U0RTS/ADC2_CH4/XTAL_32K_P, 9 GPIO16/U0CTS/ADC2_CH5/XTAL_32K_N, 10 GPIO17/U1TXD/ADC2_CH6/DAC_1, 11 GPIO18/U1RXD/ADC2_CH7/DAC_2/CLK_OUT3, 12 GPIO8/TOUCH8/ADC1_CH7, 13 GPIO19/U1RTS/ADC2_CH8/CLK_OUT2/USB_D-, 14 GPIO20/U1CTS/ADC2_CH9/CLK_OUT1/USB_D+, 15 GPIO3/TOUCH3/ADC1_CH2, 16 GPIO46, 17 GPIO9/TOUCH9/ADC1_CH8/FSPIHD, 18 GPIO10/TOUCH10/ADC1_CH9/FSPICS0/FSPIIO4, 19 GPIO11/TOUCH11/ADC2_CH0/FSPID/FSPIIO5, 20 GPIO12/TOUCH12/ADC2_CH1/FSPICLK/FSPIIO6, 21 GPIO13/TOUCH13/ADC2_CH2/FSPIQ/FSPIIO7, 22 GPIO14/TOUCH14/ADC2_CH3/FSPIWP/FSPIDQS, 23 GPIO21, 24 SPIIO4/GPIO33/FSPIHD, 25 SPIIO5/GPIO34/FSPICS0, 26 GPIO45, 27 GPIO0, 28 SPIIO6/GPIO35/FSPID, 29 SPIIO7/GPIO36/FSPICLK, 30 SPIDQS/GPIO37/FSPIQ, 31 GPIO38/FSPIWP, 32 MTCK/GPIO39/CLK_OUT3, 33 MTDO/GPIO40/CLK_OUT2, 34 MTDI/GPIO41/CLK_OUT1, 35 MTMS/GPIO42, 36 U0RXD/GPIO44/CLK_OUT2, 37 U0TXD/GPIO43/CLK_OUT1, 38 GPIO2/TOUCH2/ADC1_CH1, 39 GPIO1/TOUCH1/ADC1_CH0, 40 GND hidden, 41 GND hidden

## ESP32-S2-WROOM
designator *
NRND; Footprint: PCM_Espressif:ESP32-S2-WROOM; Datasheet: https://www.espressif.com/sites/default/files/documentation/esp32-s2-wroom_esp32-s2-wroom-i_datasheet_en.pdf; Description_: NRND
pins: 1 GND, 2 3V3, 3 GPIO0/BOOT, 4 GPIO1/ADC1_CH0, 5 GPIO2/ADC1_CH1, 6 GPIO3/ADC1_CH2, 7 GPIO4/ADC1_CH3, 8 GPIO5/ADC1_CH4, 9 GPIO6/ADC1_CH5, 10 GPIO7/ADC1_CH6, 11 GPIO8/ADC1_CH7, 12 GPIO9/ADC1_CH8, 13 GPIO10/ADC1_CH9, 14 GPIO11/ADC2_CH0, 15 GPIO12/ADC2_CH1, 16 GPIO13/ADC2_CH2, 17 GPIO14/ADC2_CH3, 18 GPIO15/ADC2_CH4/XTAL_32K_P, 19 GPIO16/ADC2_CH5/XTAL_32K_N, 20 ADC2_CH6/DAC_1/GPIO17, 21 ADC2_CH7/DAC_2/GPIO18, 22 USB_D-/ADC2_CH8/GPIO19, 23 USB_D+/ADC2_CH9/GPIO20, 24 GPIO21, 25 SPI_CS1/GPIO26, 26 GND hidden, 27 GPIO33, 28 GPIO34, 29 GPIO35, 30 GPIO36, 31 GPIO37, 32 GPIO38, 33 MTCK/JTAG/GPIO39, 34 MTDO/JTAG/GPIO40, 35 MTDI/JTAG/GPIO41, 36 MTMS/JTAG/GPIO42, 37 GPIO43/U0TXD/PROG, 38 GPIO44/U0RXD/PROG, 39 GPIO45, 40 GPIO46, 41 CHIP/PU/RESET, 42 GND hidden, 43 GND hidden

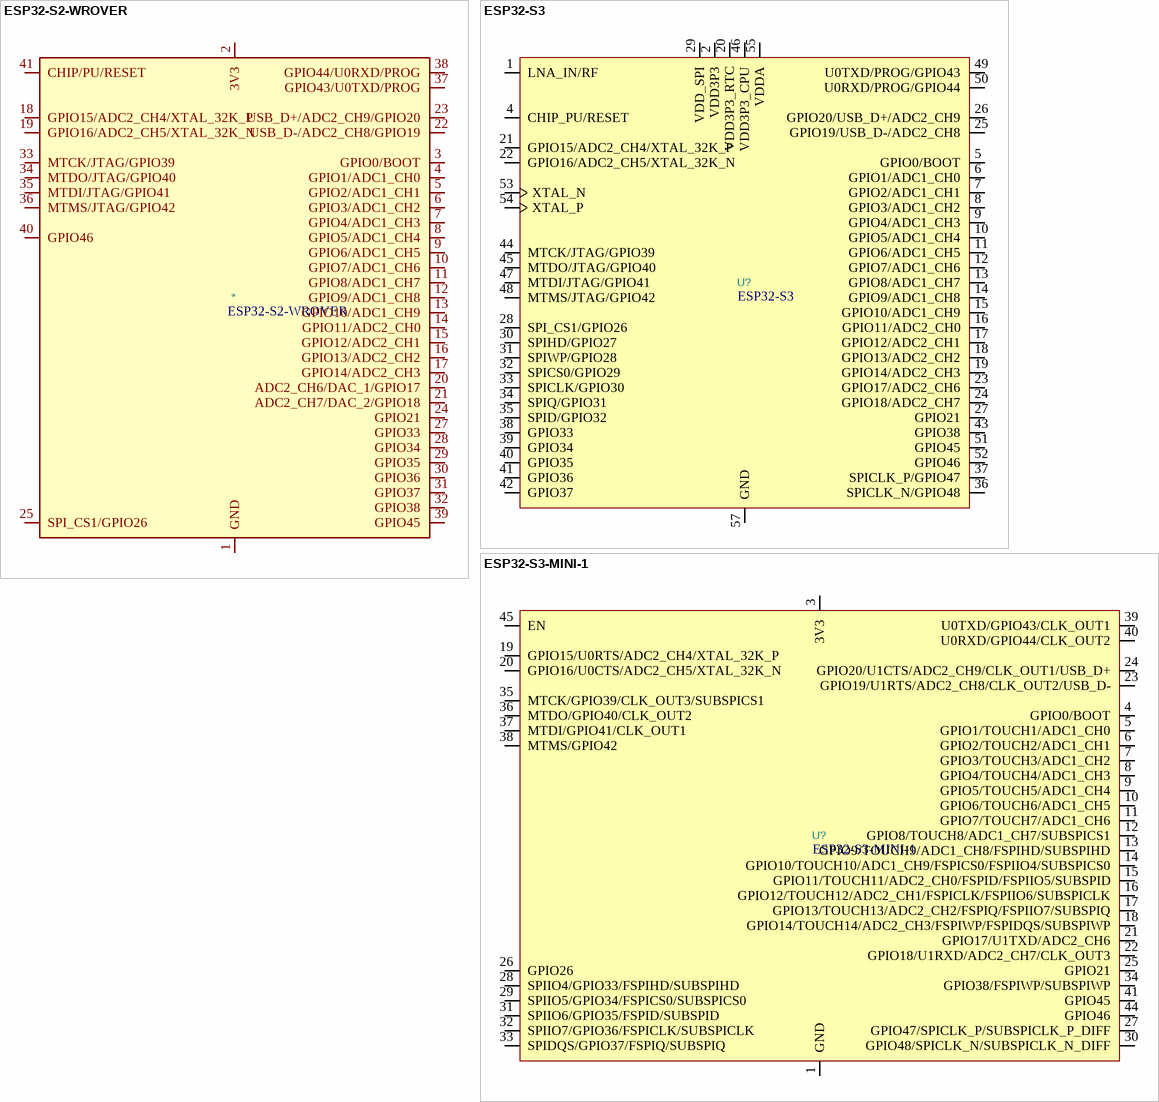
[diagram p3: symbols ESP32-S2-WROVER to ESP32-S3-MINI-1]

## ESP32-S2-WROVER
designator *
NRND; Footprint: PCM_Espressif:ESP32-S2-WROVER; Datasheet: https://www.espressif.com/sites/default/files/documentation/esp32-s2-wroom_esp32-s2-wroom-i_datasheet_en.pdf; Description_: NRND
pins: 1 GND, 2 3V3, 3 GPIO0/BOOT, 4 GPIO1/ADC1_CH0, 5 GPIO2/ADC1_CH1, 6 GPIO3/ADC1_CH2, 7 GPIO4/ADC1_CH3, 8 GPIO5/ADC1_CH4, 9 GPIO6/ADC1_CH5, 10 GPIO7/ADC1_CH6, 11 GPIO8/ADC1_CH7, 12 GPIO9/ADC1_CH8, 13 GPIO10/ADC1_CH9, 14 GPIO11/ADC2_CH0, 15 GPIO12/ADC2_CH1, 16 GPIO13/ADC2_CH2, 17 GPIO14/ADC2_CH3, 18 GPIO15/ADC2_CH4/XTAL_32K_P, 19 GPIO16/ADC2_CH5/XTAL_32K_N, 20 ADC2_CH6/DAC_1/GPIO17, 21 ADC2_CH7/DAC_2/GPIO18, 22 USB_D-/ADC2_CH8/GPIO19, 23 USB_D+/ADC2_CH9/GPIO20, 24 GPIO21, 25 SPI_CS1/GPIO26, 26 GND hidden, 27 GPIO33, 28 GPIO34, 29 GPIO35, 30 GPIO36, 31 GPIO37, 32 GPIO38, 33 MTCK/JTAG/GPIO39, 34 MTDO/JTAG/GPIO40, 35 MTDI/JTAG/GPIO41, 36 MTMS/JTAG/GPIO42, 37 GPIO43/U0TXD/PROG, 38 GPIO44/U0RXD/PROG, 39 GPIO45, 40 GPIO46, 41 CHIP/PU/RESET, 42 GND hidden, 43 GND hidden

## ESP32-S3
designator U?
ESP32-S3 is a low-power MCU-based system-on-chip (SoC) that supports 2.4 GHz Wi-Fi and Bluetooth® Low Energy (Bluetooth LE). It consists of high-performance dual-core microprocessor (Xtensa® 32-bit LX7), a low power coprocessor, a Wi-Fi baseband, a Bluetooth LE baseband, RF module, and peripherals.; Footprint: Package_DFN_QFN:QFN-56-1EP_7x7mm_P0.4mm_EP5.6x5.6mm; Datasheet: https://www.espressif.com/sites/default/files/documentation/esp32-s3_datasheet_en.pdf; Description_: ESP32-S3 is a low-power MCU-based system-on-chip (SoC) that supports 2.4 GHz Wi-Fi and Bluetooth® Low Energy (Bluetooth LE). It consists of high-performance dual-core microprocessor (Xtensa® 32-bit LX7), a low power coprocessor, a Wi-Fi baseband, a Bluetooth LE baseband, RF module, and peripherals.
footprint ESP32-S3
pins: 1 LNA_IN/RF, 2 VDD3P3, 3 VDD3P3 hidden, 4 CHIP_PU/RESET, 5 GPIO0/BOOT, 6 GPIO1/ADC1_CH0, 7 GPIO2/ADC1_CH1, 8 GPIO3/ADC1_CH2, 9 GPIO4/ADC1_CH3, 10 GPIO5/ADC1_CH4, 11 GPIO6/ADC1_CH5, 12 GPIO7/ADC1_CH6, 13 GPIO8/ADC1_CH7, 14 GPIO9/ADC1_CH8, 15 GPIO10/ADC1_CH9, 16 GPIO11/ADC2_CH0, 17 GPIO12/ADC2_CH1, 18 GPIO13/ADC2_CH2, 19 GPIO14/ADC2_CH3, 20 VDD3P3_RTC, 21 GPIO15/ADC2_CH4/XTAL_32K_P, 22 GPIO16/ADC2_CH5/XTAL_32K_N, 23 GPIO17/ADC2_CH6, 24 GPIO18/ADC2_CH7, 25 GPIO19/USB_D-/ADC2_CH8, 26 GPIO20/USB_D+/ADC2_CH9, 27 GPIO21, 28 SPI_CS1/GPIO26, 29 VDD_SPI, 30 SPIHD/GPIO27, 31 SPIWP/GPIO28, 32 SPICS0/GPIO29, 33 SPICLK/GPIO30, 34 SPIQ/GPIO31, 35 SPID/GPIO32, 36 SPICLK_N/GPIO48, 37 SPICLK_P/GPIO47, 38 GPIO33, 39 GPIO34, 40 GPIO35, 41 GPIO36, 42 GPIO37, 43 GPIO38, 44 MTCK/JTAG/GPIO39, 45 MTDO/JTAG/GPIO40, 46 VDD3P3_CPU, 47 MTDI/JTAG/GPIO41, 48 MTMS/JTAG/GPIO42, 49 U0TXD/PROG/GPIO43, 50 U0RXD/PROG/GPIO44, 51 GPIO45, 52 GPIO46, 53 XTAL_N, 54 XTAL_P, 55 VDDA, 56 VDDA hidden, 57 GND

## ESP32-S3-MINI-1
designator U?
Smallsized module supporting 2.4 GHz WiFi (802.11 b/g/n) and Bluetooth ® 5 (LE) Built around ESP32S3 series of SoCs, Xtensa ® dualcore 32bit LX7 microprocessor Flash up to 8 MB, optional 2 MB PSRAM in chip package 39 GPIOs, rich set of peripherals Onboard PCB antenna or external antenna connector; Footprint: PCM_Espressif:ESP32-S3-MINI-1; Datasheet: https://www.espressif.com/sites/default/files/documentation/esp32-s3-mini-1_mini-1u_datasheet_en.pdf; Description_: Smallsized module supporting 2.4 GHz WiFi (802.11 b/g/n) and Bluetooth ® 5 (LE) Built around ESP32S3 series of SoCs, Xtensa ® dualcore 32bit LX7 microprocessor Flash up to 8 MB, optional 2 MB PSRAM in chip package 39 GPIOs, rich set of peripherals Onboard PCB antenna or external antenna connector
footprint ESP32-S3-MINI-1
footprint ESP32-S3-MINI-1U
pins: 1 GND, 2 GND hidden, 3 3V3, 4 GPIO0/BOOT, 5 GPIO1/TOUCH1/ADC1_CH0, 6 GPIO2/TOUCH2/ADC1_CH1, 7 GPIO3/TOUCH3/ADC1_CH2, 8 GPIO4/TOUCH4/ADC1_CH3, 9 GPIO5/TOUCH5/ADC1_CH4, 10 GPIO6/TOUCH6/ADC1_CH5, 11 GPIO7/TOUCH7/ADC1_CH6, 12 GPIO8/TOUCH8/ADC1_CH7/SUBSPICS1, 13 GPIO9/TOUCH9/ADC1_CH8/FSPIHD/SUBSPIHD, 14 GPIO10/TOUCH10/ADC1_CH9/FSPICS0/FSPIIO4/SUBSPICS0, 15 GPIO11/TOUCH11/ADC2_CH0/FSPID/FSPIIO5/SUBSPID, 16 GPIO12/TOUCH12/ADC2_CH1/FSPICLK/FSPIIO6/SUBSPICLK, 17 GPIO13/TOUCH13/ADC2_CH2/FSPIQ/FSPIIO7/SUBSPIQ, 18 GPIO14/TOUCH14/ADC2_CH3/FSPIWP/FSPIDQS/SUBSPIWP, 19 GPIO15/U0RTS/ADC2_CH4/XTAL_32K_P, 20 GPIO16/U0CTS/ADC2_CH5/XTAL_32K_N, 21 GPIO17/U1TXD/ADC2_CH6, 22 GPIO18/U1RXD/ADC2_CH7/CLK_OUT3, 23 GPIO19/U1RTS/ADC2_CH8/CLK_OUT2/USB_D-, 24 GPIO20/U1CTS/ADC2_CH9/CLK_OUT1/USB_D+, 25 GPIO21, 26 GPIO26, 27 GPIO47/SPICLK_P/SUBSPICLK_P_DIFF, 28 SPIIO4/GPIO33/FSPIHD/SUBSPIHD, 29 SPIIO5/GPIO34/FSPICS0/SUBSPICS0, 30 GPIO48/SPICLK_N/SUBSPICLK_N_DIFF, 31 SPIIO6/GPIO35/FSPID/SUBSPID, 32 SPIIO7/GPIO36/FSPICLK/SUBSPICLK, 33 SPIDQS/GPIO37/FSPIQ/SUBSPIQ, 34 GPIO38/FSPIWP/SUBSPIWP, 35 MTCK/GPIO39/CLK_OUT3/SUBSPICS1, 36 MTDO/GPIO40/CLK_OUT2, 37 MTDI/GPIO41/CLK_OUT1, 38 MTMS/GPIO42, 39 U0TXD/GPIO43/CLK_OUT1, 40 U0RXD/GPIO44/CLK_OUT2, 41 GPIO45, 42 GND hidden, 43 GND hidden, 44 GPIO46, 45 EN, 46 GND hidden, 47 GND hidden, 48 GND hidden, 49 GND hidden, 50 GND hidden, 51 GND hidden, 52 GND hidden, 53 GND hidden, 54 GND hidden, 55 GND hidden, 56 GND hidden, 57 GND hidden, 58 GND hidden, 59 GND hidden, 60 GND hidden, 61 GND hidden, 62 GND hidden, 63 GND hidden, 64 GND hidden, 65 GND hidden

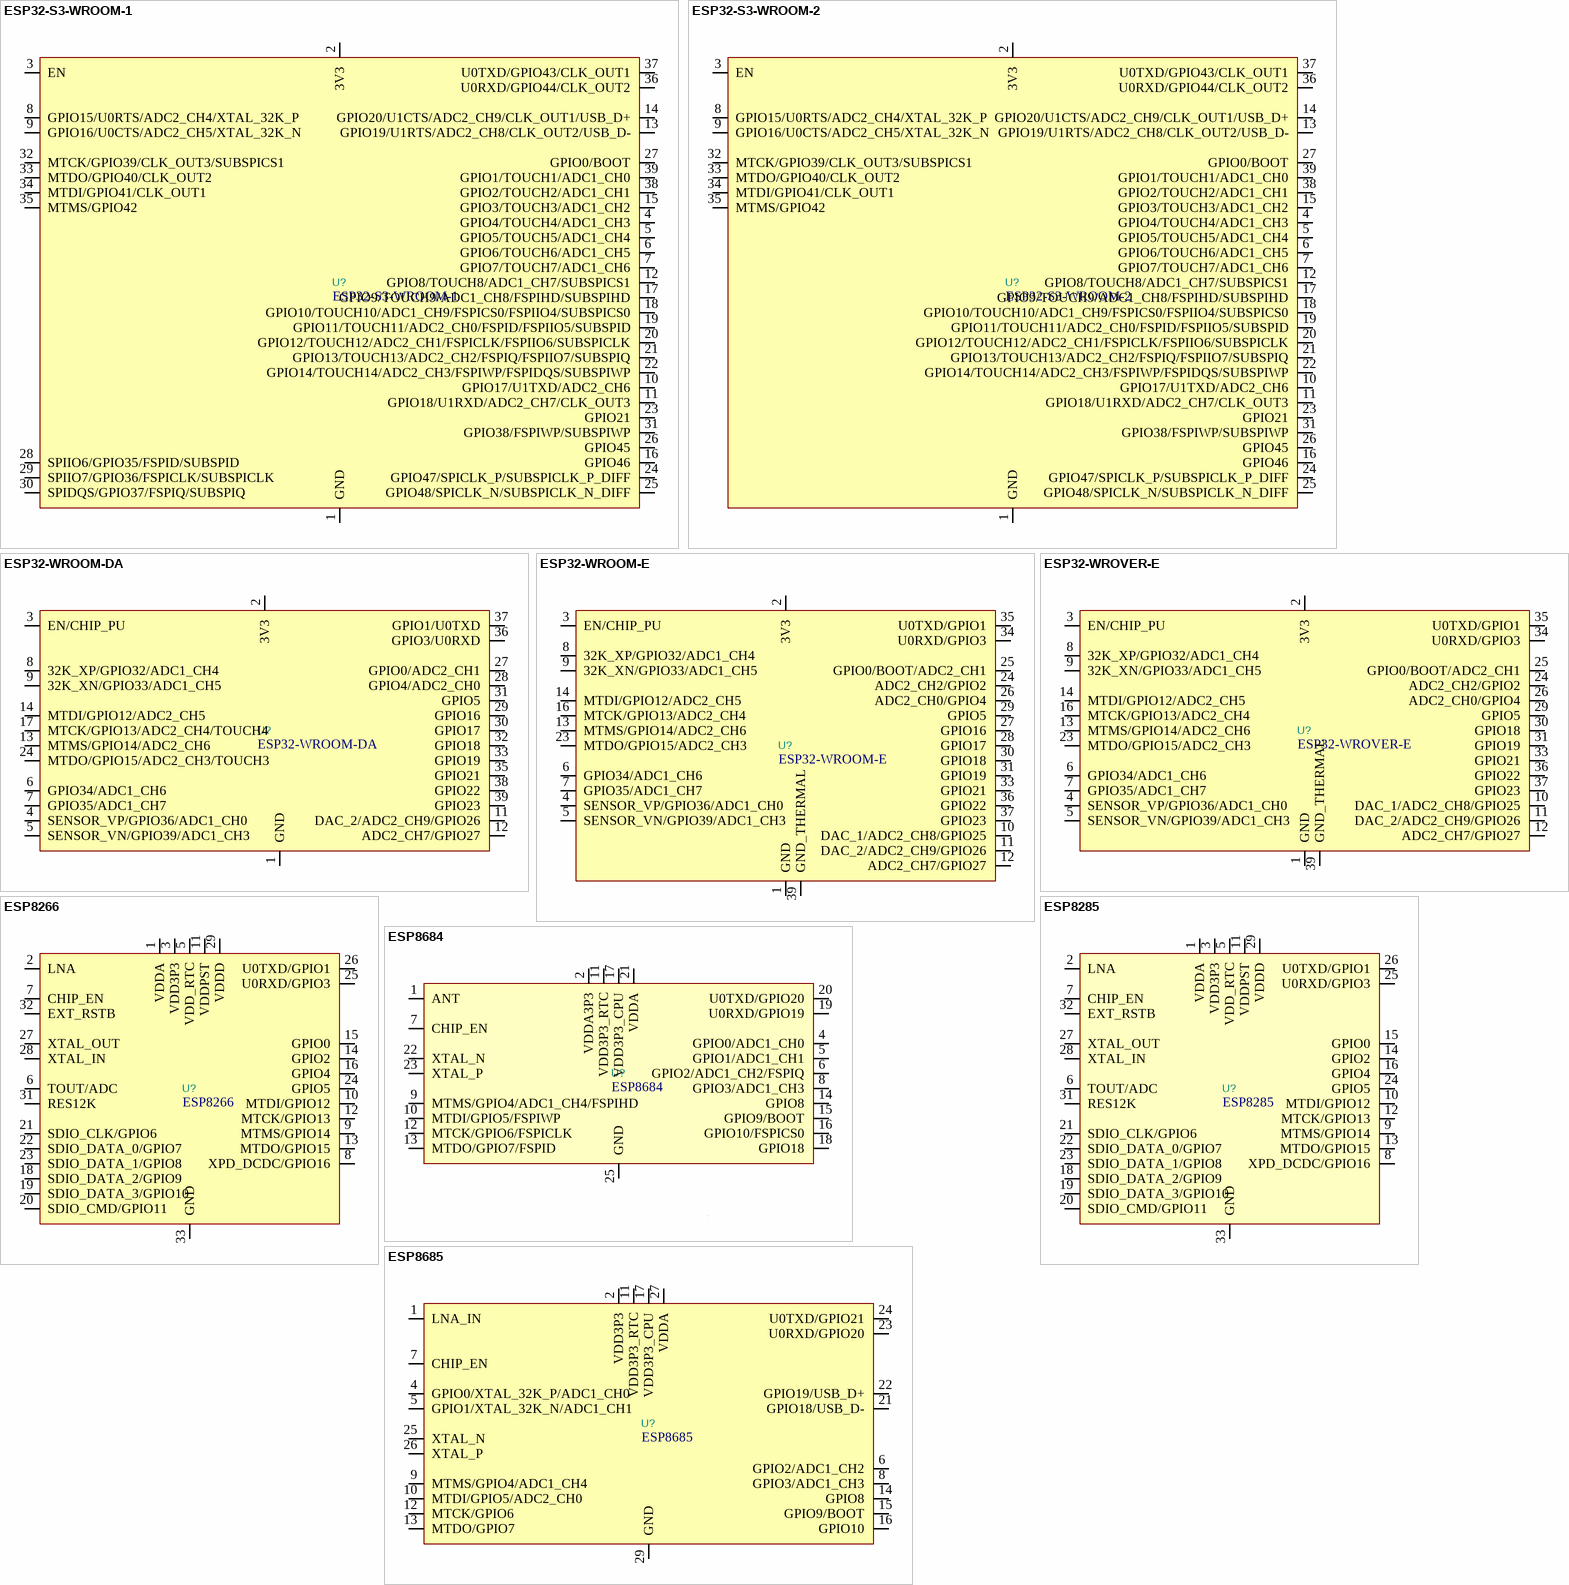
[diagram p4: symbols ESP32-S3-WROOM-1 to ESP8685]

## ESP32-S3-WROOM-1
designator U?
2.4 GHz WiFi (802.11 b/g/n) and Bluetooth ® 5 (LE) module Built around ESP32S3 series of SoCs, Xtensa ® dualcore 32bit LX7 microprocessor Flash up to 16 MB, PSRAM up to 8 MB 36 GPIOs, rich set of peripherals Onboard PCB antenna; Footprint: PCM_Espressif:ESP32-S3-WROOM-1; Datasheet: https://www.espressif.com/sites/default/files/documentation/esp32-s3-wroom-1_wroom-1u_datasheet_en.pdf; Description_: 2.4 GHz WiFi (802.11 b/g/n) and Bluetooth ® 5 (LE) module Built around ESP32S3 series of SoCs, Xtensa ® dualcore 32bit LX7 microprocessor Flash up to 16 MB, PSRAM up to 8 MB 36 GPIOs, rich set of peripherals Onboard PCB antenna
footprint ESP32-S3-WROOM-1
footprint ESP32-S3-WROOM-1U
pins: 1 GND, 2 3V3, 3 EN, 4 GPIO4/TOUCH4/ADC1_CH3, 5 GPIO5/TOUCH5/ADC1_CH4, 6 GPIO6/TOUCH6/ADC1_CH5, 7 GPIO7/TOUCH7/ADC1_CH6, 8 GPIO15/U0RTS/ADC2_CH4/XTAL_32K_P, 9 GPIO16/U0CTS/ADC2_CH5/XTAL_32K_N, 10 GPIO17/U1TXD/ADC2_CH6, 11 GPIO18/U1RXD/ADC2_CH7/CLK_OUT3, 12 GPIO8/TOUCH8/ADC1_CH7/SUBSPICS1, 13 GPIO19/U1RTS/ADC2_CH8/CLK_OUT2/USB_D-, 14 GPIO20/U1CTS/ADC2_CH9/CLK_OUT1/USB_D+, 15 GPIO3/TOUCH3/ADC1_CH2, 16 GPIO46, 17 GPIO9/TOUCH9/ADC1_CH8/FSPIHD/SUBSPIHD, 18 GPIO10/TOUCH10/ADC1_CH9/FSPICS0/FSPIIO4/SUBSPICS0, 19 GPIO11/TOUCH11/ADC2_CH0/FSPID/FSPIIO5/SUBSPID, 20 GPIO12/TOUCH12/ADC2_CH1/FSPICLK/FSPIIO6/SUBSPICLK, 21 GPIO13/TOUCH13/ADC2_CH2/FSPIQ/FSPIIO7/SUBSPIQ, 22 GPIO14/TOUCH14/ADC2_CH3/FSPIWP/FSPIDQS/SUBSPIWP, 23 GPIO21, 24 GPIO47/SPICLK_P/SUBSPICLK_P_DIFF, 25 GPIO48/SPICLK_N/SUBSPICLK_N_DIFF, 26 GPIO45, 27 GPIO0/BOOT, 28 SPIIO6/GPIO35/FSPID/SUBSPID, 29 SPIIO7/GPIO36/FSPICLK/SUBSPICLK, 30 SPIDQS/GPIO37/FSPIQ/SUBSPIQ, 31 GPIO38/FSPIWP/SUBSPIWP, 32 MTCK/GPIO39/CLK_OUT3/SUBSPICS1, 33 MTDO/GPIO40/CLK_OUT2, 34 MTDI/GPIO41/CLK_OUT1, 35 MTMS/GPIO42, 36 U0RXD/GPIO44/CLK_OUT2, 37 U0TXD/GPIO43/CLK_OUT1, 38 GPIO2/TOUCH2/ADC1_CH1, 39 GPIO1/TOUCH1/ADC1_CH0, 40 GND hidden, 41 GND hidden

## ESP32-S3-WROOM-2
designator U?
2.4 GHz WiFi (802.11 b/g/n) and Bluetooth ® 5 (LE) module Built around ESP32S3 series of SoCs, Xtensa ® dualcore 32bit LX7 microprocessor Flash up to 16 MB, PSRAM up to 8 MB 36 GPIOs, rich set of peripherals Onboard PCB antenna; Footprint: PCM_Espressif:ESP32-S3-WROOM-2; Datasheet: https://www.espressif.com/sites/default/files/documentation/esp32-s3-wroom-2_datasheet_en.pdf; Description_: 2.4 GHz WiFi (802.11 b/g/n) and Bluetooth ® 5 (LE) module Built around ESP32S3 series of SoCs, Xtensa ® dualcore 32bit LX7 microprocessor Flash up to 16 MB, PSRAM up to 8 MB 36 GPIOs, rich set of peripherals Onboard PCB antenna
footprint ESP32-S3-WROOM-2
pins: 1 GND, 2 3V3, 3 EN, 4 GPIO4/TOUCH4/ADC1_CH3, 5 GPIO5/TOUCH5/ADC1_CH4, 6 GPIO6/TOUCH6/ADC1_CH5, 7 GPIO7/TOUCH7/ADC1_CH6, 8 GPIO15/U0RTS/ADC2_CH4/XTAL_32K_P, 9 GPIO16/U0CTS/ADC2_CH5/XTAL_32K_N, 10 GPIO17/U1TXD/ADC2_CH6, 11 GPIO18/U1RXD/ADC2_CH7/CLK_OUT3, 12 GPIO8/TOUCH8/ADC1_CH7/SUBSPICS1, 13 GPIO19/U1RTS/ADC2_CH8/CLK_OUT2/USB_D-, 14 GPIO20/U1CTS/ADC2_CH9/CLK_OUT1/USB_D+, 15 GPIO3/TOUCH3/ADC1_CH2, 16 GPIO46, 17 GPIO9/TOUCH9/ADC1_CH8/FSPIHD/SUBSPIHD, 18 GPIO10/TOUCH10/ADC1_CH9/FSPICS0/FSPIIO4/SUBSPICS0, 19 GPIO11/TOUCH11/ADC2_CH0/FSPID/FSPIIO5/SUBSPID, 20 GPIO12/TOUCH12/ADC2_CH1/FSPICLK/FSPIIO6/SUBSPICLK, 21 GPIO13/TOUCH13/ADC2_CH2/FSPIQ/FSPIIO7/SUBSPIQ, 22 GPIO14/TOUCH14/ADC2_CH3/FSPIWP/FSPIDQS/SUBSPIWP, 23 GPIO21, 24 GPIO47/SPICLK_P/SUBSPICLK_P_DIFF, 25 GPIO48/SPICLK_N/SUBSPICLK_N_DIFF, 26 GPIO45, 27 GPIO0/BOOT, 28 NC hidden, 29 NC hidden, 30 NC hidden, 31 GPIO38/FSPIWP/SUBSPIWP, 32 MTCK/GPIO39/CLK_OUT3/SUBSPICS1, 33 MTDO/GPIO40/CLK_OUT2, 34 MTDI/GPIO41/CLK_OUT1, 35 MTMS/GPIO42, 36 U0RXD/GPIO44/CLK_OUT2, 37 U0TXD/GPIO43/CLK_OUT1, 38 GPIO2/TOUCH2/ADC1_CH1, 39 GPIO1/TOUCH1/ADC1_CH0, 40 GND hidden, 41 GND hidden

## ESP32-WROOM-DA
designator U?
ki_keywords: ESP32 Dual Antenna DA; Footprint: PCM_Espressif:ESP32-WROOM-DA; Datasheet: https://www.espressif.com/sites/default/files/documentation/esp32-wroom-da_datasheet_en.pdf; Description_: ESP32-WROOM-DA
footprint ESP32-WROOM-DA
pins: 1 GND, 2 3V3, 3 EN/CHIP_PU, 4 SENSOR_VP/GPIO36/ADC1_CH0, 5 SENSOR_VN/GPIO39/ADC1_CH3, 6 GPIO34/ADC1_CH6, 7 GPIO35/ADC1_CH7, 8 32K_XP/GPIO32/ADC1_CH4, 9 32K_XN/GPIO33/ADC1_CH5, 11 DAC_2/ADC2_CH9/GPIO26, 12 ADC2_CH7/GPIO27, 13 MTMS/GPIO14/ADC2_CH6, 14 MTDI/GPIO12/ADC2_CH5, 16 GND hidden, 17 MTCK/GPIO13/ADC2_CH4/TOUCH4, 24 MTDO/GPIO15/ADC2_CH3/TOUCH3, 27 GPIO0/ADC2_CH1, 28 GPIO4/ADC2_CH0, 29 GPIO16, 30 GPIO17, 31 GPIO5, 32 GPIO18, 33 GPIO19, 35 GPIO21, 36 GPIO3/U0RXD, 37 GPIO1/U0TXD, 38 GPIO22, 39 GPIO23, 40 GND hidden, 43 GND hidden

## ESP32-WROOM-E
designator U?
ESP32-WROOM-32E integrates ESP32-D0WD-V3, with higher stability and safety performance.; ki_keywords: ESP32; Footprint: PCM_Espressif:ESP32-WROOM-32E; Datasheet: https://www.espressif.com/sites/default/files/documentation/esp32-wroom-32e_esp32-wroom-32ue_datasheet_en.pdf; Description_: ESP32-WROOM-32E integrates ESP32-D0WD-V3, with higher stability and safety performance.
footprint ESP32-WROOM-32E
footprint ESP32-WROOM-32UE
pins: 1 GND, 2 3V3, 3 EN/CHIP_PU, 4 SENSOR_VP/GPIO36/ADC1_CH0, 5 SENSOR_VN/GPIO39/ADC1_CH3, 6 GPIO34/ADC1_CH6, 7 GPIO35/ADC1_CH7, 8 32K_XP/GPIO32/ADC1_CH4, 9 32K_XN/GPIO33/ADC1_CH5, 10 DAC_1/ADC2_CH8/GPIO25, 11 DAC_2/ADC2_CH9/GPIO26, 12 ADC2_CH7/GPIO27, 13 MTMS/GPIO14/ADC2_CH6, 14 MTDI/GPIO12/ADC2_CH5, 15 GND hidden, 16 MTCK/GPIO13/ADC2_CH4, 23 MTDO/GPIO15/ADC2_CH3, 24 ADC2_CH2/GPIO2, 25 GPIO0/BOOT/ADC2_CH1, 26 ADC2_CH0/GPIO4, 27 GPIO16, 28 GPIO17, 29 GPIO5, 30 GPIO18, 31 GPIO19, 33 GPIO21, 34 U0RXD/GPIO3, 35 U0TXD/GPIO1, 36 GPIO22, 37 GPIO23, 38 GND hidden, 39 GND_THERMAL

## ESP32-WROVER-E
designator U?
ESP32-WROVER-E and ESP32-WROVER-IE are two powerful, generic WiFi-BT-BLE MCU modules that target a wide variety of applications, ranging from low-power sensor networks to the most demanding tasks, such as voice encoding, music streaming and MP3 decoding. ESP32-WROVER-E comes with a PCB antenna, and ESP32-WROVER-IE with an IPEX antenna. They both featurea 4 MB external SPI flash and an additional 8 MB SPI Pseudo static RAM (PSRAM).; ki_keywords: ESP32; Footprint: PCM_Espressif:ESP32-WROVER-E; Datasheet: https://www.espressif.com/sites/default/files/documentation/esp32-wrover-e_esp32-wrover-ie_datasheet_en.pdf; Description_: ESP32-WROVER-E and ESP32-WROVER-IE are two powerful, generic WiFi-BT-BLE MCU modules that target a wide variety of applications, ranging from low-power sensor networks to the most demanding tasks, such as voice encoding, music streaming and MP3 decoding. ESP32-WROVER-E comes with a PCB antenna, and ESP32-WROVER-IE with an IPEX antenna. They both featurea 4 MB external SPI flash and an additional 8 MB SPI Pseudo static RAM (PSRAM).
footprint ESP32-WROVER-E
footprint ESP32-WROVER-E_ThermalVias
pins: 1 GND, 2 3V3, 3 EN/CHIP_PU, 4 SENSOR_VP/GPIO36/ADC1_CH0, 5 SENSOR_VN/GPIO39/ADC1_CH3, 6 GPIO34/ADC1_CH6, 7 GPIO35/ADC1_CH7, 8 32K_XP/GPIO32/ADC1_CH4, 9 32K_XN/GPIO33/ADC1_CH5, 10 DAC_1/ADC2_CH8/GPIO25, 11 DAC_2/ADC2_CH9/GPIO26, 12 ADC2_CH7/GPIO27, 13 MTMS/GPIO14/ADC2_CH6, 14 MTDI/GPIO12/ADC2_CH5, 15 GND hidden, 16 MTCK/GPIO13/ADC2_CH4, 23 MTDO/GPIO15/ADC2_CH3, 24 ADC2_CH2/GPIO2, 25 GPIO0/BOOT/ADC2_CH1, 26 ADC2_CH0/GPIO4, 29 GPIO5, 30 GPIO18, 31 GPIO19, 33 GPIO21, 34 U0RXD/GPIO3, 35 U0TXD/GPIO1, 36 GPIO22, 37 GPIO23, 38 GND hidden, 39 GND_THERMAL

## ESP8266
designator U?
Espressif’s ESP8266EX delivers highly integrated Wi-Fi SoC solution to meet users’ continuous demands for efficient power usage, compact design and reliable performance in the Internet of Things industry.; Footprint: Package_DFN_QFN:QFN-32-1EP_5x5mm_P0.5mm_EP3.45x3.45mm; Datasheet: https://www.espressif.com/sites/default/files/documentation/0a-esp8266ex_datasheet_en.pdf; Description_: Espressif’s ESP8266EX delivers highly integrated Wi-Fi SoC solution to meet users’ continuous demands for efficient power usage, compact design and reliable performance in the Internet of Things industry.
footprint ESP8266-EX
pins: 1 VDDA, 2 LNA, 3 VDD3P3, 4 VDD3P3 hidden, 5 VDD_RTC, 6 TOUT/ADC, 7 CHIP_EN, 8 XPD_DCDC/GPIO16, 9 MTMS/GPIO14, 10 MTDI/GPIO12, 11 VDDPST, 12 MTCK/GPIO13, 13 MTDO/GPIO15, 14 GPIO2, 15 GPIO0, 16 GPIO4, 17 VDDPST hidden, 18 SDIO_DATA_2/GPIO9, 19 SDIO_DATA_3/GPIO10, 20 SDIO_CMD/GPIO11, 21 SDIO_CLK/GPIO6, 22 SDIO_DATA_0/GPIO7, 23 SDIO_DATA_1/GPIO8, 24 GPIO5, 25 U0RXD/GPIO3, 26 U0TXD/GPIO1, 27 XTAL_OUT, 28 XTAL_IN, 29 VDDD, 30 VDDA hidden, 31 RES12K, 32 EXT_RSTB, 33 GND

## ESP8285
designator U?
Espressif's ESP8285 delivers highly integrated Wi-Fi SoC solution to meet users' continuous demands for efficient power usage, compact design and reliable performance in the Internet of Things industry.; Footprint: Package_DFN_QFN:QFN-32-1EP_5x5mm_P0.5mm_EP3.45x3.45mm; Datasheet: https://www.espressif.com/sites/default/files/documentation/0a-esp8285_datasheet_en.pdf; Description_: Espressif's ESP8285 delivers highly integrated Wi-Fi SoC solution to meet users' continuous demands for efficient power usage, compact design and reliable performance in the Internet of Things industry.
footprint ESP8285 (和官网给出的封装QFN 4x4不一致（该封装也来自官网）)
pins: 1 VDDA, 2 LNA, 3 VDD3P3, 4 VDD3P3 hidden, 5 VDD_RTC, 6 TOUT/ADC, 7 CHIP_EN, 8 XPD_DCDC/GPIO16, 9 MTMS/GPIO14, 10 MTDI/GPIO12, 11 VDDPST, 12 MTCK/GPIO13, 13 MTDO/GPIO15, 14 GPIO2, 15 GPIO0, 16 GPIO4, 17 VDDPST hidden, 18 SDIO_DATA_2/GPIO9, 19 SDIO_DATA_3/GPIO10, 20 SDIO_CMD/GPIO11, 21 SDIO_CLK/GPIO6, 22 SDIO_DATA_0/GPIO7, 23 SDIO_DATA_1/GPIO8, 24 GPIO5, 25 U0RXD/GPIO3, 26 U0TXD/GPIO1, 27 XTAL_OUT, 28 XTAL_IN, 29 VDDD, 30 VDDA hidden, 31 RES12K, 32 EXT_RSTB, 33 GND

## ESP8684
designator U?
ESP8684 is an Ultra­Low­Power SoC with RISC­V Single­Core CPU,Supporting IEEE 802.11b/g/n (2.4 GHz Wi­Fi) and Bluetooth 5 (LE); Footprint: Package_DFN_QFN:QFN-24-1EP_4x4mm_P0.5mm_EP2.8x2.8mm; Datasheet: https://www.espressif.com/sites/default/files/documentation/esp8684_datasheet_en.pdf; Description_: ESP8684 is an Ultra­Low­Power SoC with RISC­V Single­Core CPU,Supporting IEEE 802.11b/g/n (2.4 GHz Wi­Fi) and Bluetooth 5 (LE)
footprint ESP8684
pins: 1 ANT, 2 VDDA3P3, 3 VDDA3P3 hidden, 4 GPIO0/ADC1_CH0, 5 GPIO1/ADC1_CH1, 6 GPIO2/ADC1_CH2/FSPIQ, 7 CHIP_EN, 8 GPIO3/ADC1_CH3, 9 MTMS/GPIO4/ADC1_CH4/FSPIHD, 10 MTDI/GPIO5/FSPIWP, 11 VDD3P3_RTC, 12 MTCK/GPIO6/FSPICLK, 13 MTDO/GPIO7/FSPID, 14 GPIO8, 15 GPIO9/BOOT, 16 GPIO10/FSPICS0, 17 VDD3P3_CPU, 18 GPIO18, 19 U0RXD/GPIO19, 20 U0TXD/GPIO20, 21 VDDA, 22 XTAL_N, 23 XTAL_P, 24 VDDA hidden, 25 GND

## ESP8685
designator U?
ESP8685 is an ultra-low-power and highly-integrated MCU-based SoC solution that supports 2.4 GHz Wi-Fi and\nBluetooth® Low Energy (Bluetooth LE).; Footprint: Package_DFN_QFN:QFN-28-1EP_4x4mm_P0.4mm_EP2.6x2.6mm; Datasheet: https://www.espressif.com/sites/default/files/documentation/esp8685_datasheet_en.pdf; Description_: ESP8685 is an ultra-low-power and highly-integrated MCU-based SoC solution that supports 2.4 GHz Wi-Fi and\nBluetooth® Low Energy (Bluetooth LE).
footprint ESP8685
pins: 1 LNA_IN, 2 VDD3P3, 3 VDD3P3 hidden, 4 GPIO0/XTAL_32K_P/ADC1_CH0, 5 GPIO1/XTAL_32K_N/ADC1_CH1, 6 GPIO2/ADC1_CH2, 7 CHIP_EN, 8 GPIO3/ADC1_CH3, 9 MTMS/GPIO4/ADC1_CH4, 10 MTDI/GPIO5/ADC2_CH0, 11 VDD3P3_RTC, 12 MTCK/GPIO6, 13 MTDO/GPIO7, 14 GPIO8, 15 GPIO9/BOOT, 16 GPIO10, 17 VDD3P3_CPU, 21 GPIO18/USB_D-, 22 GPIO19/USB_D+, 23 U0RXD/GPIO20, 24 U0TXD/GPIO21, 25 XTAL_N, 26 XTAL_P, 27 VDDA, 28 VDDA hidden, 29 GND

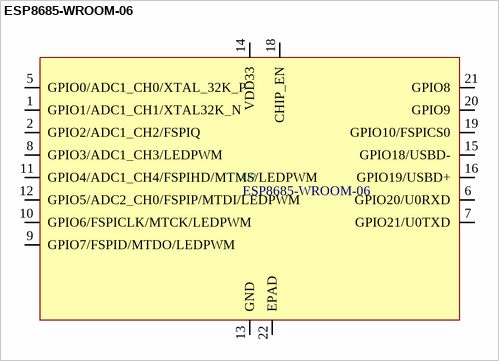
[diagram p5: symbol ESP8685-WROOM-06]

## ESP8685-WROOM-06
designator U?
ki_keywords: ESP32; Footprint: PCM_Espressif:ESP8685-WROOM-06; Datasheet: https://www.espressif.com/sites/default/files/documentation/esp8685-wroom-06_datasheet_en.pdf
footprint ESP8685-WROOM-06
pins: 1 GPIO1/ADC1_CH1/XTAL32K_N, 2 GPIO2/ADC1_CH2/FSPIQ, 3 NC hidden, 4 NC hidden, 5 GPIO0/ADC1_CH0/XTAL_32K_P, 6 GPIO20/U0RXD, 7 GPIO21/U0TXD, 8 GPIO3/ADC1_CH3/LEDPWM, 9 GPIO7/FSPID/MTDO/LEDPWM, 10 GPIO6/FSPICLK/MTCK/LEDPWM, 11 GPIO4/ADC1_CH4/FSPIHD/MTMS/LEDPWM, 12 GPIO5/ADC2_CH0/FSPIP/MTDI/LEDPWM, 13 GND, 14 VDD33, 15 GPIO18/USBD-, 16 GPIO19/USBD+, 17 NC hidden, 18 CHIP_EN, 19 GPIO10/FSPICS0, 20 GPIO9, 21 GPIO8, 22 EPAD